# Altium schematic symbol library micro-fujitsu.SCHLIB: 74 symbols
Pins are listed as number, name and electrical type; pins without a type are passive.

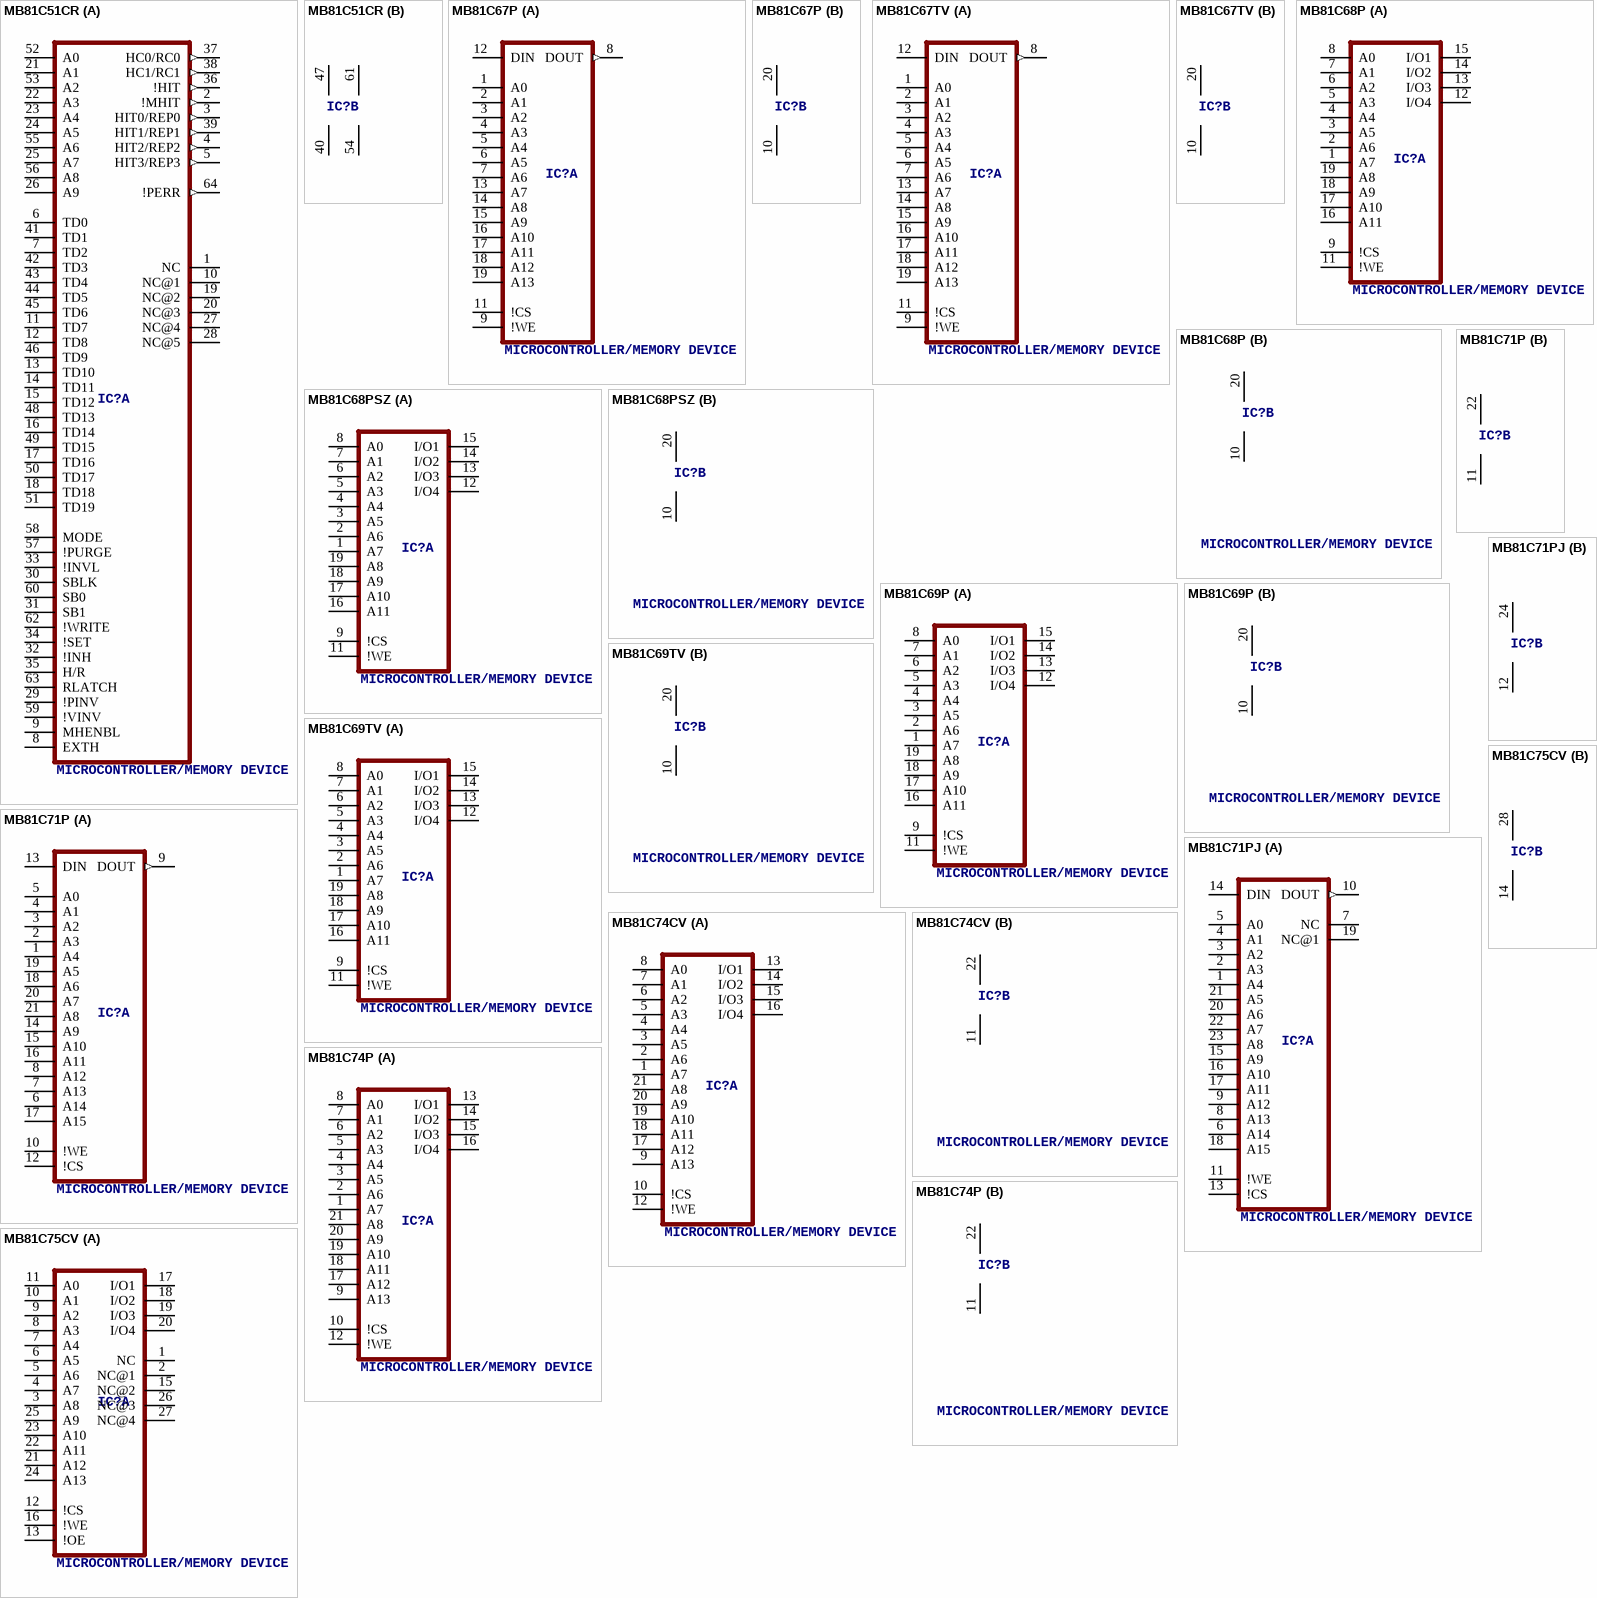
[diagram p0: symbols MB81C51CR to MB81C75CV]

## MB81C51CR
designator IC?, comment MICROCONTROLLER/MEMORY DEVICE
OC_FARNELL: unknown; OC_NEWARK: unknown
footprint PGA64
part A pins: 1 NC, 2 !MHIT (out), 3 HIT0/REP0 (out), 4 HIT2/REP2 (out), 5 HIT3/REP3 (out), 6 TD0, 7 TD2, 8 EXTH, 9 MHENBL, 10 NC@1, 11 TD7, 12 TD8, 13 TD10, 14 TD11, 15 TD12, 16 TD14, 17 TD16, 18 TD18, 19 NC@2, 20 NC@3, 21 A1, 22 A3, 23 A4, 24 A5, 25 A7, 26 A9, 27 NC@4, 28 NC@5, 29 !PINV, 30 SBLK, 31 SB1, 32 !INH, 33 !INVL, 34 !SET, 35 H/R, 36 !HIT (out), 37 HC0/RC0 (out), 38 HC1/RC1 (out), 39 HIT1/REP1 (out), 41 TD1, 42 TD3, 43 TD4, 44 TD5, 45 TD6, 46 TD9, 48 TD13, 49 TD15, 50 TD17, 51 TD19, 52 A0, 53 A2, 55 A6, 56 A8, 57 !PURGE, 58 MODE, 59 !VINV, 60 SB0, 62 !WRITE, 63 RLATCH, 64 !PERR (out)
part B pins: 40 GND (power), 47 VCC (power), 54 GND@1 (power), 61 VCC@1 (power)

## MB81C67P
designator IC?, comment MICROCONTROLLER/MEMORY DEVICE
OC_FARNELL: unknown; OC_NEWARK: unknown
footprint DIL20
part A pins: 1 A0, 2 A1, 3 A2, 4 A3, 5 A4, 6 A5, 7 A6, 8 DOUT (out), 9 !WE, 11 !CS, 12 DIN, 13 A7, 14 A8, 15 A9, 16 A10, 17 A11, 18 A12, 19 A13
part B pins: 10 GND (power), 20 VCC (power)

## MB81C67TV
designator IC?, comment MICROCONTROLLER/MEMORY DEVICE
OC_FARNELL: unknown; OC_NEWARK: unknown
footprint LCC20C
part A pins: 1 A0, 2 A1, 3 A2, 4 A3, 5 A4, 6 A5, 7 A6, 8 DOUT (out), 9 !WE, 11 !CS, 12 DIN, 13 A7, 14 A8, 15 A9, 16 A10, 17 A11, 18 A12, 19 A13
part B pins: 10 GND (power), 20 VCC (power)

## MB81C68P
designator IC?, comment MICROCONTROLLER/MEMORY DEVICE
OC_FARNELL: unknown; OC_NEWARK: unknown
footprint DIL20
part A pins: 1 A7, 2 A6, 3 A5, 4 A4, 5 A3, 6 A2, 7 A1, 8 A0, 9 !CS, 11 !WE, 12 I/O4, 13 I/O3, 14 I/O2, 15 I/O1, 16 A11, 17 A10, 18 A9, 19 A8
part B pins: 10 GND (power), 20 VCC (power)

## MB81C68PSZ
designator IC?, comment MICROCONTROLLER/MEMORY DEVICE
OC_FARNELL: unknown; OC_NEWARK: unknown
footprint ZIP20P
part A pins: 1 A7, 2 A6, 3 A5, 4 A4, 5 A3, 6 A2, 7 A1, 8 A0, 9 !CS, 11 !WE, 12 I/O4, 13 I/O3, 14 I/O2, 15 I/O1, 16 A11, 17 A10, 18 A9, 19 A8
part B pins: 10 GND (power), 20 VCC (power)

## MB81C69P
designator IC?, comment MICROCONTROLLER/MEMORY DEVICE
OC_FARNELL: unknown; OC_NEWARK: unknown
footprint DIL20
part A pins: 1 A7, 2 A6, 3 A5, 4 A4, 5 A3, 6 A2, 7 A1, 8 A0, 9 !CS, 11 !WE, 12 I/O4, 13 I/O3, 14 I/O2, 15 I/O1, 16 A11, 17 A10, 18 A9, 19 A8
part B pins: 10 GND (power), 20 VCC (power)

## MB81C69TV
designator IC?, comment MICROCONTROLLER/MEMORY DEVICE
OC_FARNELL: unknown; OC_NEWARK: unknown
footprint LCC20C
part A pins: 1 A7, 2 A6, 3 A5, 4 A4, 5 A3, 6 A2, 7 A1, 8 A0, 9 !CS, 11 !WE, 12 I/O4, 13 I/O3, 14 I/O2, 15 I/O1, 16 A11, 17 A10, 18 A9, 19 A8
part B pins: 10 GND (power), 20 VCC (power)

## MB81C71P
designator IC?, comment MICROCONTROLLER/MEMORY DEVICE
OC_FARNELL: unknown; OC_NEWARK: unknown
footprint DIL22-3
part A pins: 1 A4, 2 A3, 3 A2, 4 A1, 5 A0, 6 A14, 7 A13, 8 A12, 9 DOUT (out), 10 !WE, 12 !CS, 13 DIN, 14 A9, 15 A10, 16 A11, 17 A15, 18 A6, 19 A5, 20 A7, 21 A8
part B pins: 11 GND (power), 22 VCC (power)

## MB81C71PJ
designator IC?, comment MICROCONTROLLER/MEMORY DEVICE
OC_FARNELL: unknown; OC_NEWARK: unknown
footprint SOJ24
part A pins: 1 A4, 2 A3, 3 A2, 4 A1, 5 A0, 6 A14, 7 NC, 8 A13, 9 A12, 10 DOUT (out), 11 !WE, 13 !CS, 14 DIN, 15 A9, 16 A10, 17 A11, 18 A15, 19 NC@1, 20 A6, 21 A5, 22 A7, 23 A8
part B pins: 12 GND (power), 24 VCC (power)

## MB81C74CV
designator IC?, comment MICROCONTROLLER/MEMORY DEVICE
OC_FARNELL: unknown; OC_NEWARK: unknown
footprint LCC22
part A pins: 1 A7, 2 A6, 3 A5, 4 A4, 5 A3, 6 A2, 7 A1, 8 A0, 9 A13, 10 !CS, 12 !WE, 13 I/O1, 14 I/O2, 15 I/O3, 16 I/O4, 17 A12, 18 A11, 19 A10, 20 A9, 21 A8
part B pins: 11 GND (power), 22 VCC (power)

## MB81C74P
designator IC?, comment MICROCONTROLLER/MEMORY DEVICE
OC_FARNELL: unknown; OC_NEWARK: unknown
footprint DIL22-3
part A pins: 1 A7, 2 A6, 3 A5, 4 A4, 5 A3, 6 A2, 7 A1, 8 A0, 9 A13, 10 !CS, 12 !WE, 13 I/O1, 14 I/O2, 15 I/O3, 16 I/O4, 17 A12, 18 A11, 19 A10, 20 A9, 21 A8
part B pins: 11 GND (power), 22 VCC (power)

## MB81C75CV
designator IC?, comment MICROCONTROLLER/MEMORY DEVICE
OC_FARNELL: unknown; OC_NEWARK: unknown
footprint LCC28
part A pins: 1 NC, 2 NC@1, 3 A8, 4 A7, 5 A6, 6 A5, 7 A4, 8 A3, 9 A2, 10 A1, 11 A0, 12 !CS, 13 !OE, 15 NC@2, 16 !WE, 17 I/O1, 18 I/O2, 19 I/O3, 20 I/O4, 21 A12, 22 A11, 23 A10, 24 A13, 25 A9, 26 NC@3, 27 NC@4
part B pins: 14 GND (power), 28 VCC (power)

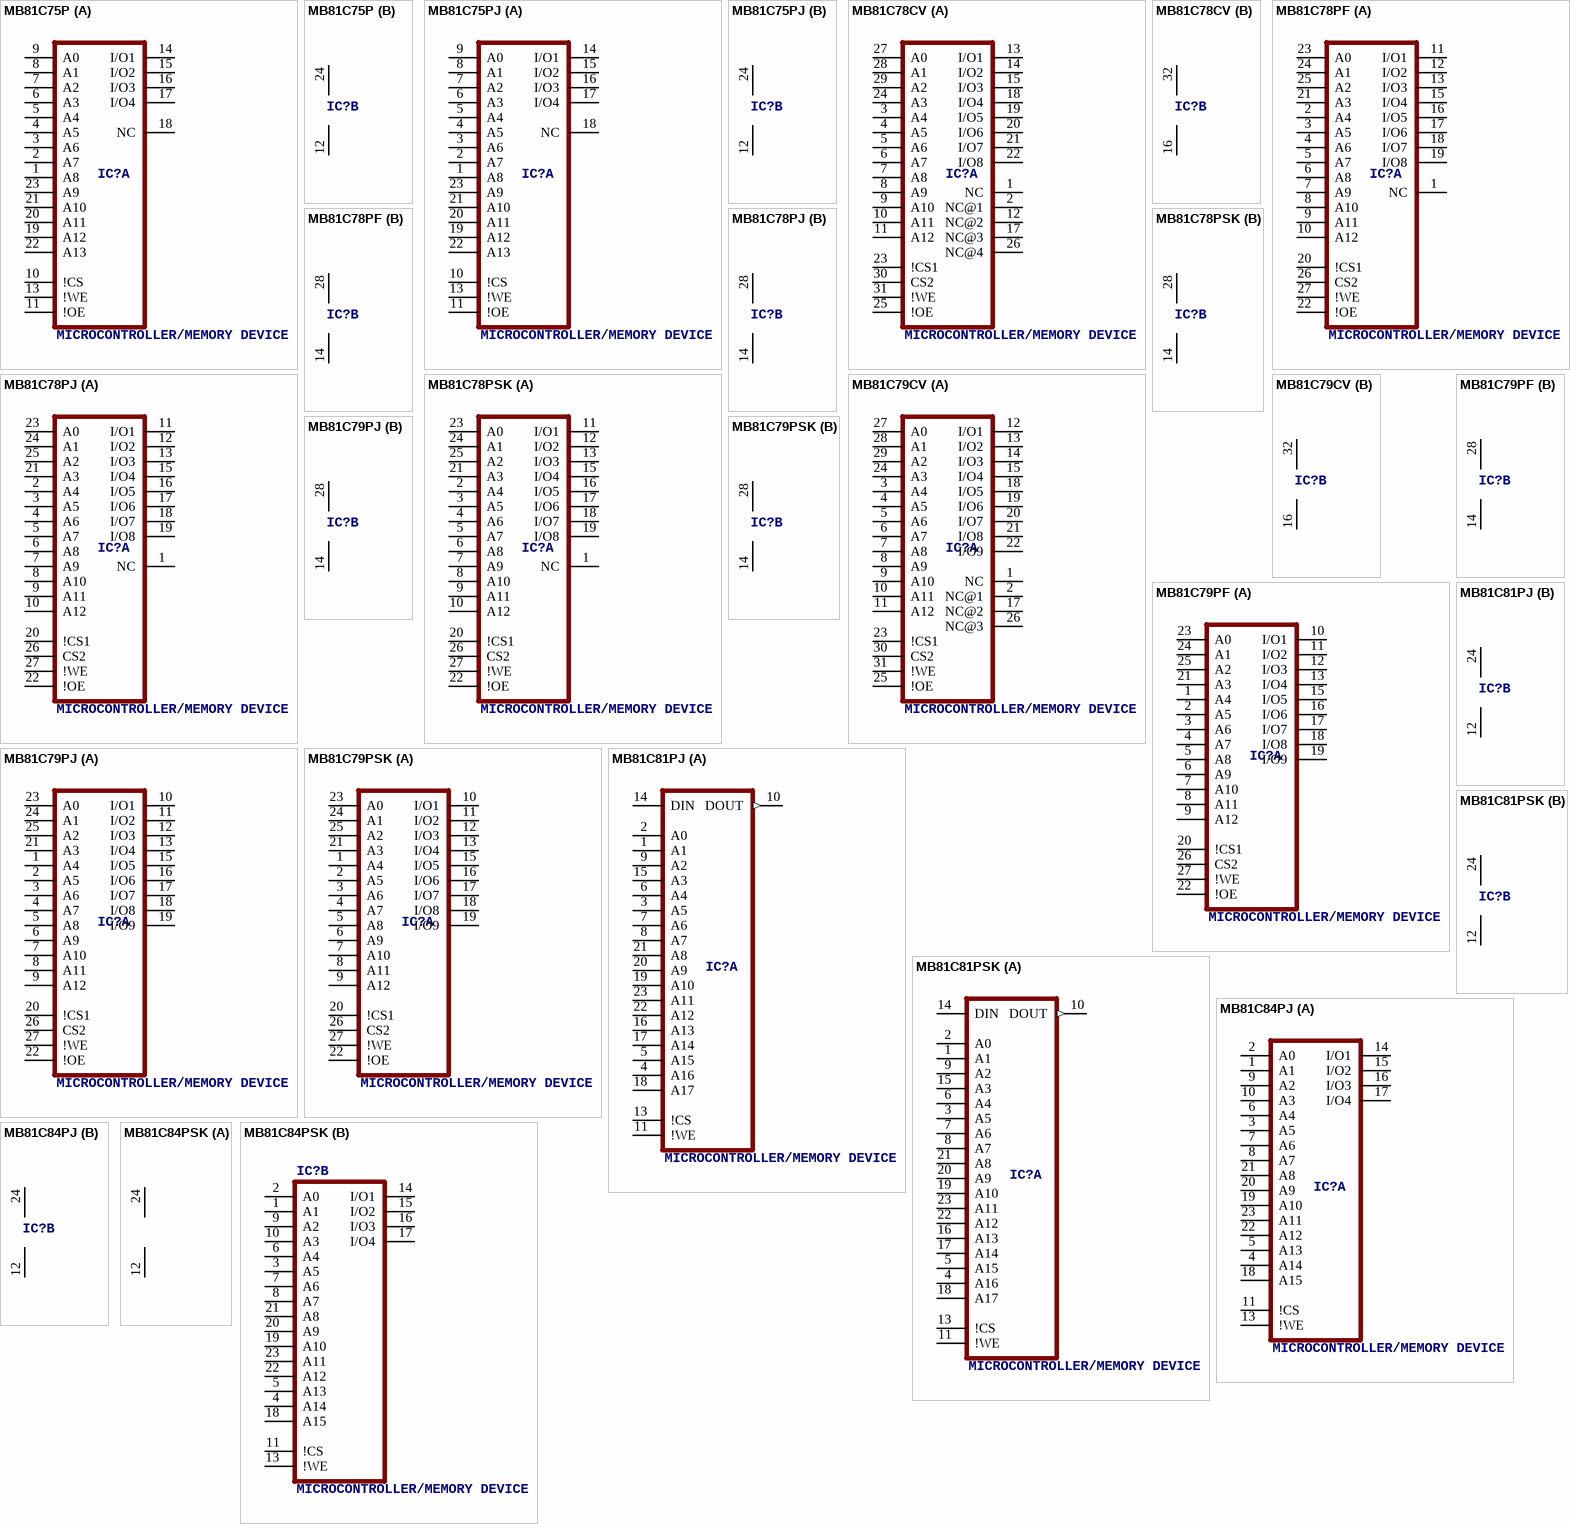
[diagram p1: symbols MB81C75P to MB81C84PSK]

## MB81C75P
designator IC?, comment MICROCONTROLLER/MEMORY DEVICE
OC_FARNELL: unknown; OC_NEWARK: unknown
footprint DIL24-6
part A pins: 1 A8, 2 A7, 3 A6, 4 A5, 5 A4, 6 A3, 7 A2, 8 A1, 9 A0, 10 !CS, 11 !OE, 13 !WE, 14 I/O1, 15 I/O2, 16 I/O3, 17 I/O4, 18 NC, 19 A12, 20 A11, 21 A10, 22 A13, 23 A9
part B pins: 12 GND (power), 24 VCC (power)

## MB81C75PJ
designator IC?, comment MICROCONTROLLER/MEMORY DEVICE
OC_FARNELL: unknown; OC_NEWARK: unknown
footprint SOJ24
part A pins: 1 A8, 2 A7, 3 A6, 4 A5, 5 A4, 6 A3, 7 A2, 8 A1, 9 A0, 10 !CS, 11 !OE, 13 !WE, 14 I/O1, 15 I/O2, 16 I/O3, 17 I/O4, 18 NC, 19 A12, 20 A11, 21 A10, 22 A13, 23 A9
part B pins: 12 GND (power), 24 VCC (power)

## MB81C78CV
designator IC?, comment MICROCONTROLLER/MEMORY DEVICE
OC_FARNELL: unknown; OC_NEWARK: unknown
footprint LCC32
part A pins: 1 NC, 2 NC@1, 3 A4, 4 A5, 5 A6, 6 A7, 7 A8, 8 A9, 9 A10, 10 A11, 11 A12, 12 NC@2, 13 I/O1, 14 I/O2, 15 I/O3, 17 NC@3, 18 I/O4, 19 I/O5, 20 I/O6, 21 I/O7, 22 I/O8, 23 !CS1, 24 A3, 25 !OE, 26 NC@4, 27 A0, 28 A1, 29 A2, 30 CS2, 31 !WE
part B pins: 16 GND (power), 32 VCC (power)

## MB81C78PF
designator IC?, comment MICROCONTROLLER/MEMORY DEVICE
OC_FARNELL: unknown; OC_NEWARK: unknown
footprint SOP28
part A pins: 1 NC, 2 A4, 3 A5, 4 A6, 5 A7, 6 A8, 7 A9, 8 A10, 9 A11, 10 A12, 11 I/O1, 12 I/O2, 13 I/O3, 15 I/O4, 16 I/O5, 17 I/O6, 18 I/O7, 19 I/O8, 20 !CS1, 21 A3, 22 !OE, 23 A0, 24 A1, 25 A2, 26 CS2, 27 !WE
part B pins: 14 GND (power), 28 VCC (power)

## MB81C78PJ
designator IC?, comment MICROCONTROLLER/MEMORY DEVICE
OC_FARNELL: unknown; OC_NEWARK: unknown
footprint SOJ28-3
part A pins: 1 NC, 2 A4, 3 A5, 4 A6, 5 A7, 6 A8, 7 A9, 8 A10, 9 A11, 10 A12, 11 I/O1, 12 I/O2, 13 I/O3, 15 I/O4, 16 I/O5, 17 I/O6, 18 I/O7, 19 I/O8, 20 !CS1, 21 A3, 22 !OE, 23 A0, 24 A1, 25 A2, 26 CS2, 27 !WE
part B pins: 14 GND (power), 28 VCC (power)

## MB81C78PSK
designator IC?, comment MICROCONTROLLER/MEMORY DEVICE
OC_FARNELL: unknown; OC_NEWARK: unknown
footprint DIL28-3
part A pins: 1 NC, 2 A4, 3 A5, 4 A6, 5 A7, 6 A8, 7 A9, 8 A10, 9 A11, 10 A12, 11 I/O1, 12 I/O2, 13 I/O3, 15 I/O4, 16 I/O5, 17 I/O6, 18 I/O7, 19 I/O8, 20 !CS1, 21 A3, 22 !OE, 23 A0, 24 A1, 25 A2, 26 CS2, 27 !WE
part B pins: 14 GND (power), 28 VCC (power)

## MB81C79CV
designator IC?, comment MICROCONTROLLER/MEMORY DEVICE
OC_FARNELL: unknown; OC_NEWARK: unknown
footprint LCC32
part A pins: 1 NC, 2 NC@1, 3 A4, 4 A5, 5 A6, 6 A7, 7 A8, 8 A9, 9 A10, 10 A11, 11 A12, 12 I/O1, 13 I/O2, 14 I/O3, 15 I/O4, 17 NC@2, 18 I/O5, 19 I/O6, 20 I/O7, 21 I/O8, 22 I/O9, 23 !CS1, 24 A3, 25 !OE, 26 NC@3, 27 A0, 28 A1, 29 A2, 30 CS2, 31 !WE
part B pins: 16 GND (power), 32 VCC (power)

## MB81C79PF
designator IC?, comment MICROCONTROLLER/MEMORY DEVICE
OC_FARNELL: unknown; OC_NEWARK: unknown
footprint SOP28
part A pins: 1 A4, 2 A5, 3 A6, 4 A7, 5 A8, 6 A9, 7 A10, 8 A11, 9 A12, 10 I/O1, 11 I/O2, 12 I/O3, 13 I/O4, 15 I/O5, 16 I/O6, 17 I/O7, 18 I/O8, 19 I/O9, 20 !CS1, 21 A3, 22 !OE, 23 A0, 24 A1, 25 A2, 26 CS2, 27 !WE
part B pins: 14 GND (power), 28 VCC (power)

## MB81C79PJ
designator IC?, comment MICROCONTROLLER/MEMORY DEVICE
OC_FARNELL: unknown; OC_NEWARK: unknown
footprint SOJ28-3
part A pins: 1 A4, 2 A5, 3 A6, 4 A7, 5 A8, 6 A9, 7 A10, 8 A11, 9 A12, 10 I/O1, 11 I/O2, 12 I/O3, 13 I/O4, 15 I/O5, 16 I/O6, 17 I/O7, 18 I/O8, 19 I/O9, 20 !CS1, 21 A3, 22 !OE, 23 A0, 24 A1, 25 A2, 26 CS2, 27 !WE
part B pins: 14 GND (power), 28 VCC (power)

## MB81C79PSK
designator IC?, comment MICROCONTROLLER/MEMORY DEVICE
OC_FARNELL: unknown; OC_NEWARK: unknown
footprint DIL28-3
part A pins: 1 A4, 2 A5, 3 A6, 4 A7, 5 A8, 6 A9, 7 A10, 8 A11, 9 A12, 10 I/O1, 11 I/O2, 12 I/O3, 13 I/O4, 15 I/O5, 16 I/O6, 17 I/O7, 18 I/O8, 19 I/O9, 20 !CS1, 21 A3, 22 !OE, 23 A0, 24 A1, 25 A2, 26 CS2, 27 !WE
part B pins: 14 GND (power), 28 VCC (power)

## MB81C81PJ
designator IC?, comment MICROCONTROLLER/MEMORY DEVICE
OC_FARNELL: unknown; OC_NEWARK: unknown
footprint SOJ24
part A pins: 1 A1, 2 A0, 3 A5, 4 A16, 5 A15, 6 A4, 7 A6, 8 A7, 9 A2, 10 DOUT (out), 11 !WE, 13 !CS, 14 DIN, 15 A3, 16 A13, 17 A14, 18 A17, 19 A10, 20 A9, 21 A8, 22 A12, 23 A11
part B pins: 12 GND (power), 24 VCC (power)

## MB81C81PSK
designator IC?, comment MICROCONTROLLER/MEMORY DEVICE
OC_FARNELL: unknown; OC_NEWARK: unknown
footprint DIL24-6
part A pins: 1 A1, 2 A0, 3 A5, 4 A16, 5 A15, 6 A4, 7 A6, 8 A7, 9 A2, 10 DOUT (out), 11 !WE, 13 !CS, 14 DIN, 15 A3, 16 A13, 17 A14, 18 A17, 19 A10, 20 A9, 21 A8, 22 A12, 23 A11
part B pins: 12 GND (power), 24 VCC (power)

## MB81C84PJ
designator IC?, comment MICROCONTROLLER/MEMORY DEVICE
OC_FARNELL: unknown; OC_NEWARK: unknown
footprint SOJ24
part A pins: 1 A1, 2 A0, 3 A5, 4 A14, 5 A13, 6 A4, 7 A6, 8 A7, 9 A2, 10 A3, 11 !CS, 13 !WE, 14 I/O1, 15 I/O2, 16 I/O3, 17 I/O4, 18 A15, 19 A10, 20 A9, 21 A8, 22 A12, 23 A11
part B pins: 12 GND (power), 24 VCC (power)

## MB81C84PSK
designator IC?, comment MICROCONTROLLER/MEMORY DEVICE
OC_FARNELL: unknown; OC_NEWARK: unknown
footprint DIL24-6
part A pins: 12 GND (power), 24 VCC (power)
part B pins: 1 A1, 2 A0, 3 A5, 4 A14, 5 A13, 6 A4, 7 A6, 8 A7, 9 A2, 10 A3, 11 !CS, 13 !WE, 14 I/O1, 15 I/O2, 16 I/O3, 17 I/O4, 18 A15, 19 A10, 20 A9, 21 A8, 22 A12, 23 A11

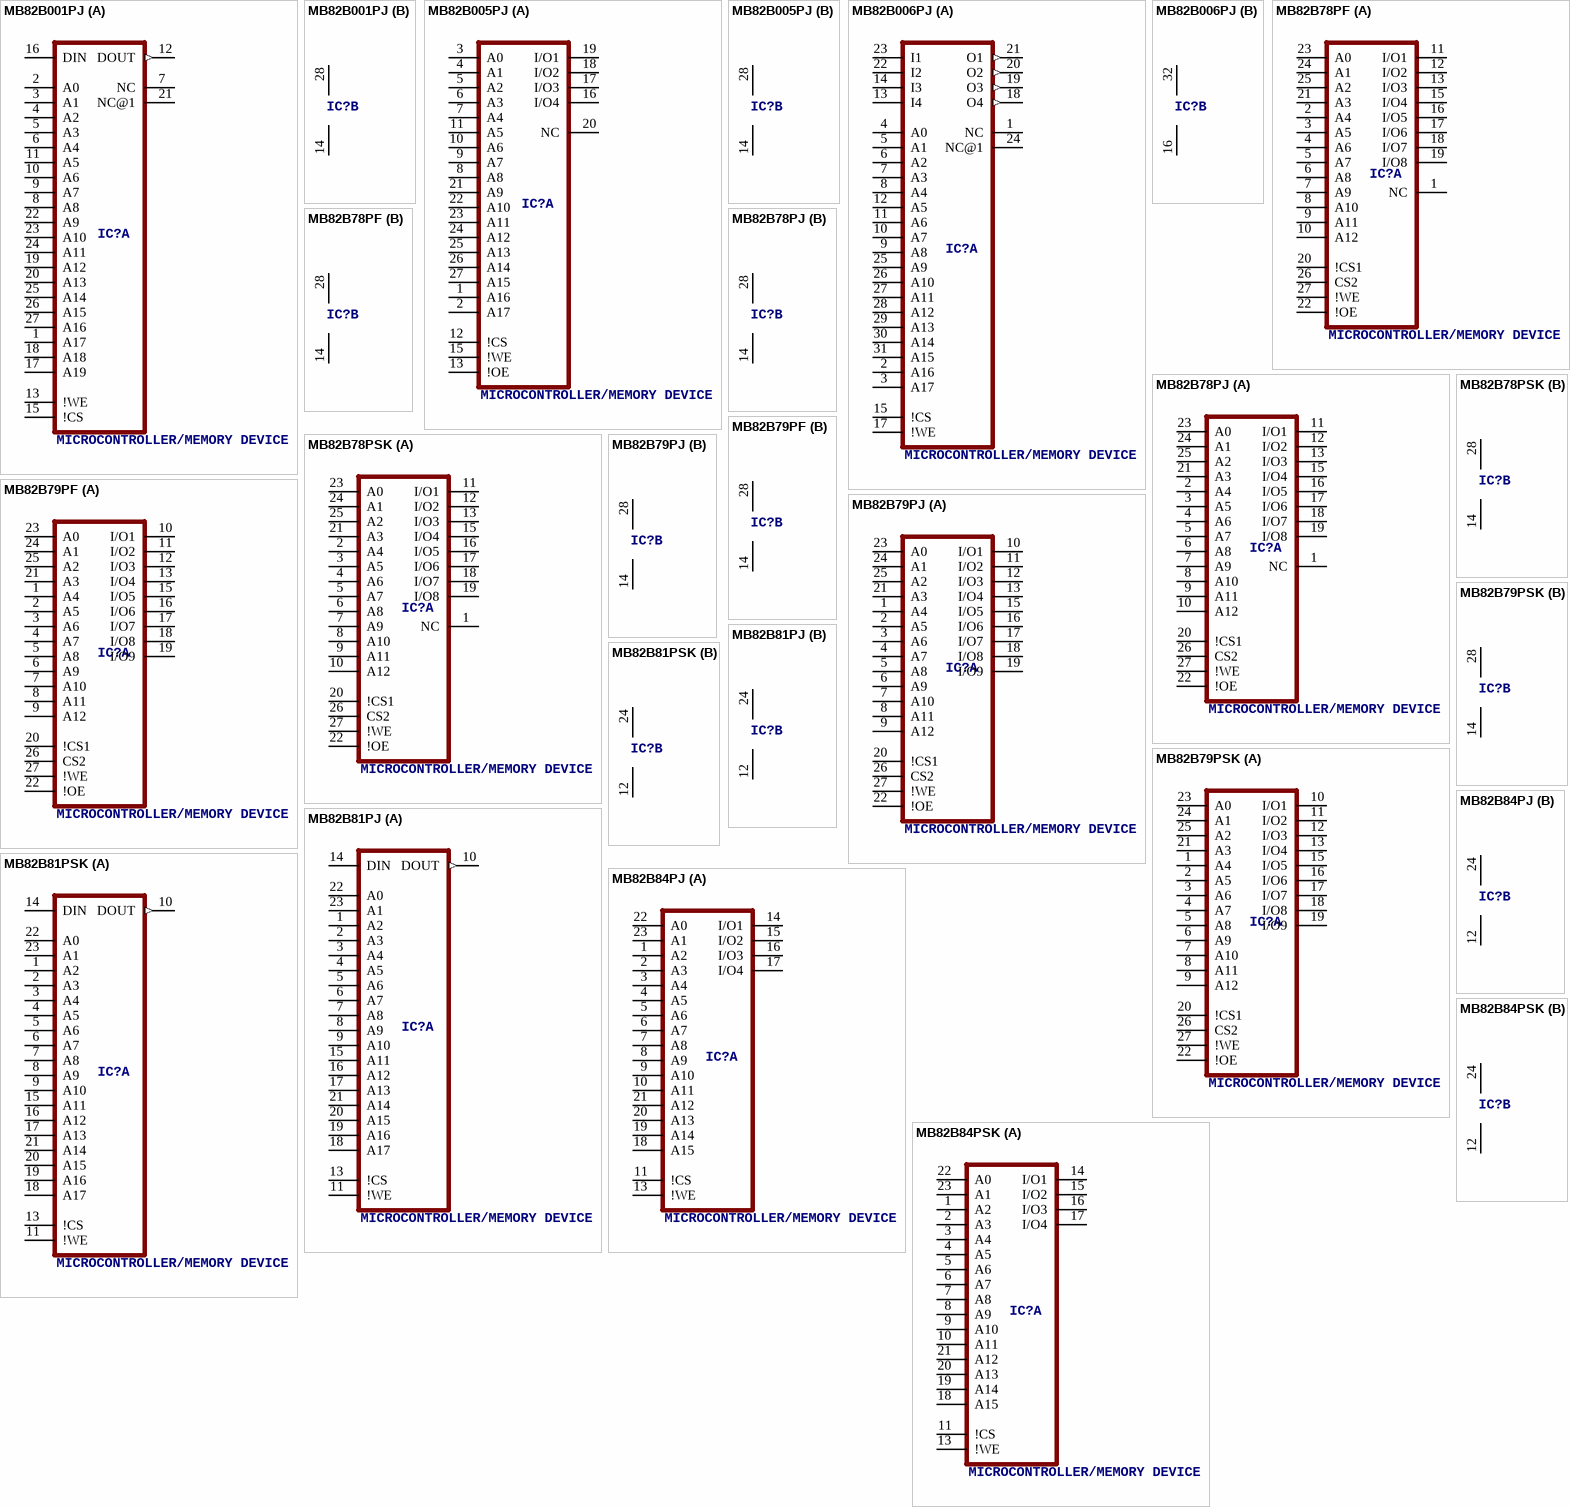
[diagram p2: symbols MB82B001PJ to MB82B84PSK]

## MB82B001PJ
designator IC?, comment MICROCONTROLLER/MEMORY DEVICE
OC_FARNELL: unknown; OC_NEWARK: unknown
footprint SOJ28-4
part A pins: 1 A17, 2 A0, 3 A1, 4 A2, 5 A3, 6 A4, 7 NC, 8 A8, 9 A7, 10 A6, 11 A5, 12 DOUT (out), 13 !WE, 15 !CS, 16 DIN, 17 A19, 18 A18, 19 A12, 20 A13, 21 NC@1, 22 A9, 23 A10, 24 A11, 25 A14, 26 A15, 27 A16
part B pins: 14 GND (power), 28 VCC (power)

## MB82B005PJ
designator IC?, comment MICROCONTROLLER/MEMORY DEVICE
OC_FARNELL: unknown; OC_NEWARK: unknown
footprint SOJ28-4
part A pins: 1 A16, 2 A17, 3 A0, 4 A1, 5 A2, 6 A3, 7 A4, 8 A8, 9 A7, 10 A6, 11 A5, 12 !CS, 13 !OE, 15 !WE, 16 I/O4, 17 I/O3, 18 I/O2, 19 I/O1, 20 NC, 21 A9, 22 A10, 23 A11, 24 A12, 25 A13, 26 A14, 27 A15
part B pins: 14 GND (power), 28 VCC (power)

## MB82B006PJ
designator IC?, comment MICROCONTROLLER/MEMORY DEVICE
OC_FARNELL: unknown; OC_NEWARK: unknown
footprint SOJ32-4
part A pins: 1 NC, 2 A16, 3 A17, 4 A0, 5 A1, 6 A2, 7 A3, 8 A4, 9 A8, 10 A7, 11 A6, 12 A5, 13 I4, 14 I3, 15 !CS, 17 !WE, 18 O4 (out), 19 O3 (out), 20 O2 (out), 21 O1 (out), 22 I2, 23 I1, 24 NC@1, 25 A9, 26 A10, 27 A11, 28 A12, 29 A13, 30 A14, 31 A15
part B pins: 16 GND (power), 32 VCC (power)

## MB82B78PF
designator IC?, comment MICROCONTROLLER/MEMORY DEVICE
OC_FARNELL: unknown; OC_NEWARK: unknown
footprint SOP28
part A pins: 1 NC, 2 A4, 3 A5, 4 A6, 5 A7, 6 A8, 7 A9, 8 A10, 9 A11, 10 A12, 11 I/O1, 12 I/O2, 13 I/O3, 15 I/O4, 16 I/O5, 17 I/O6, 18 I/O7, 19 I/O8, 20 !CS1, 21 A3, 22 !OE, 23 A0, 24 A1, 25 A2, 26 CS2, 27 !WE
part B pins: 14 GND (power), 28 VCC (power)

## MB82B78PJ
designator IC?, comment MICROCONTROLLER/MEMORY DEVICE
OC_FARNELL: unknown; OC_NEWARK: unknown
footprint SOJ28-3
part A pins: 1 NC, 2 A4, 3 A5, 4 A6, 5 A7, 6 A8, 7 A9, 8 A10, 9 A11, 10 A12, 11 I/O1, 12 I/O2, 13 I/O3, 15 I/O4, 16 I/O5, 17 I/O6, 18 I/O7, 19 I/O8, 20 !CS1, 21 A3, 22 !OE, 23 A0, 24 A1, 25 A2, 26 CS2, 27 !WE
part B pins: 14 GND (power), 28 VCC (power)

## MB82B78PSK
designator IC?, comment MICROCONTROLLER/MEMORY DEVICE
OC_FARNELL: unknown; OC_NEWARK: unknown
footprint DIL28-3
part A pins: 1 NC, 2 A4, 3 A5, 4 A6, 5 A7, 6 A8, 7 A9, 8 A10, 9 A11, 10 A12, 11 I/O1, 12 I/O2, 13 I/O3, 15 I/O4, 16 I/O5, 17 I/O6, 18 I/O7, 19 I/O8, 20 !CS1, 21 A3, 22 !OE, 23 A0, 24 A1, 25 A2, 26 CS2, 27 !WE
part B pins: 14 GND (power), 28 VCC (power)

## MB82B79PF
designator IC?, comment MICROCONTROLLER/MEMORY DEVICE
OC_FARNELL: unknown; OC_NEWARK: unknown
footprint SOJ28-3
part A pins: 1 A4, 2 A5, 3 A6, 4 A7, 5 A8, 6 A9, 7 A10, 8 A11, 9 A12, 10 I/O1, 11 I/O2, 12 I/O3, 13 I/O4, 15 I/O5, 16 I/O6, 17 I/O7, 18 I/O8, 19 I/O9, 20 !CS1, 21 A3, 22 !OE, 23 A0, 24 A1, 25 A2, 26 CS2, 27 !WE
part B pins: 14 GND (power), 28 VCC (power)

## MB82B79PJ
designator IC?, comment MICROCONTROLLER/MEMORY DEVICE
OC_FARNELL: unknown; OC_NEWARK: unknown
footprint SOP28
part A pins: 1 A4, 2 A5, 3 A6, 4 A7, 5 A8, 6 A9, 7 A10, 8 A11, 9 A12, 10 I/O1, 11 I/O2, 12 I/O3, 13 I/O4, 15 I/O5, 16 I/O6, 17 I/O7, 18 I/O8, 19 I/O9, 20 !CS1, 21 A3, 22 !OE, 23 A0, 24 A1, 25 A2, 26 CS2, 27 !WE
part B pins: 14 GND (power), 28 VCC (power)

## MB82B79PSK
designator IC?, comment MICROCONTROLLER/MEMORY DEVICE
OC_FARNELL: unknown; OC_NEWARK: unknown
footprint DIL28-3
part A pins: 1 A4, 2 A5, 3 A6, 4 A7, 5 A8, 6 A9, 7 A10, 8 A11, 9 A12, 10 I/O1, 11 I/O2, 12 I/O3, 13 I/O4, 15 I/O5, 16 I/O6, 17 I/O7, 18 I/O8, 19 I/O9, 20 !CS1, 21 A3, 22 !OE, 23 A0, 24 A1, 25 A2, 26 CS2, 27 !WE
part B pins: 14 GND (power), 28 VCC (power)

## MB82B81PJ
designator IC?, comment MICROCONTROLLER/MEMORY DEVICE
OC_FARNELL: unknown; OC_NEWARK: unknown
footprint SOJ24
part A pins: 1 A2, 2 A3, 3 A4, 4 A5, 5 A6, 6 A7, 7 A8, 8 A9, 9 A10, 10 DOUT (out), 11 !WE, 13 !CS, 14 DIN, 15 A11, 16 A12, 17 A13, 18 A17, 19 A16, 20 A15, 21 A14, 22 A0, 23 A1
part B pins: 12 GND (power), 24 VCC (power)

## MB82B81PSK
designator IC?, comment MICROCONTROLLER/MEMORY DEVICE
OC_FARNELL: unknown; OC_NEWARK: unknown
footprint DIL24-6
part A pins: 1 A2, 2 A3, 3 A4, 4 A5, 5 A6, 6 A7, 7 A8, 8 A9, 9 A10, 10 DOUT (out), 11 !WE, 13 !CS, 14 DIN, 15 A11, 16 A12, 17 A13, 18 A17, 19 A16, 20 A15, 21 A14, 22 A0, 23 A1
part B pins: 12 GND (power), 24 VCC (power)

## MB82B84PJ
designator IC?, comment MICROCONTROLLER/MEMORY DEVICE
OC_FARNELL: unknown; OC_NEWARK: unknown
footprint SOJ24
part A pins: 1 A2, 2 A3, 3 A4, 4 A5, 5 A6, 6 A7, 7 A8, 8 A9, 9 A10, 10 A11, 11 !CS, 13 !WE, 14 I/O1, 15 I/O2, 16 I/O3, 17 I/O4, 18 A15, 19 A14, 20 A13, 21 A12, 22 A0, 23 A1
part B pins: 12 GND (power), 24 VCC (power)

## MB82B84PSK
designator IC?, comment MICROCONTROLLER/MEMORY DEVICE
OC_FARNELL: unknown; OC_NEWARK: unknown
footprint DIL24-6
part A pins: 1 A2, 2 A3, 3 A4, 4 A5, 5 A6, 6 A7, 7 A8, 8 A9, 9 A10, 10 A11, 11 !CS, 13 !WE, 14 I/O1, 15 I/O2, 16 I/O3, 17 I/O4, 18 A15, 19 A14, 20 A13, 21 A12, 22 A0, 23 A1
part B pins: 12 GND (power), 24 VCC (power)

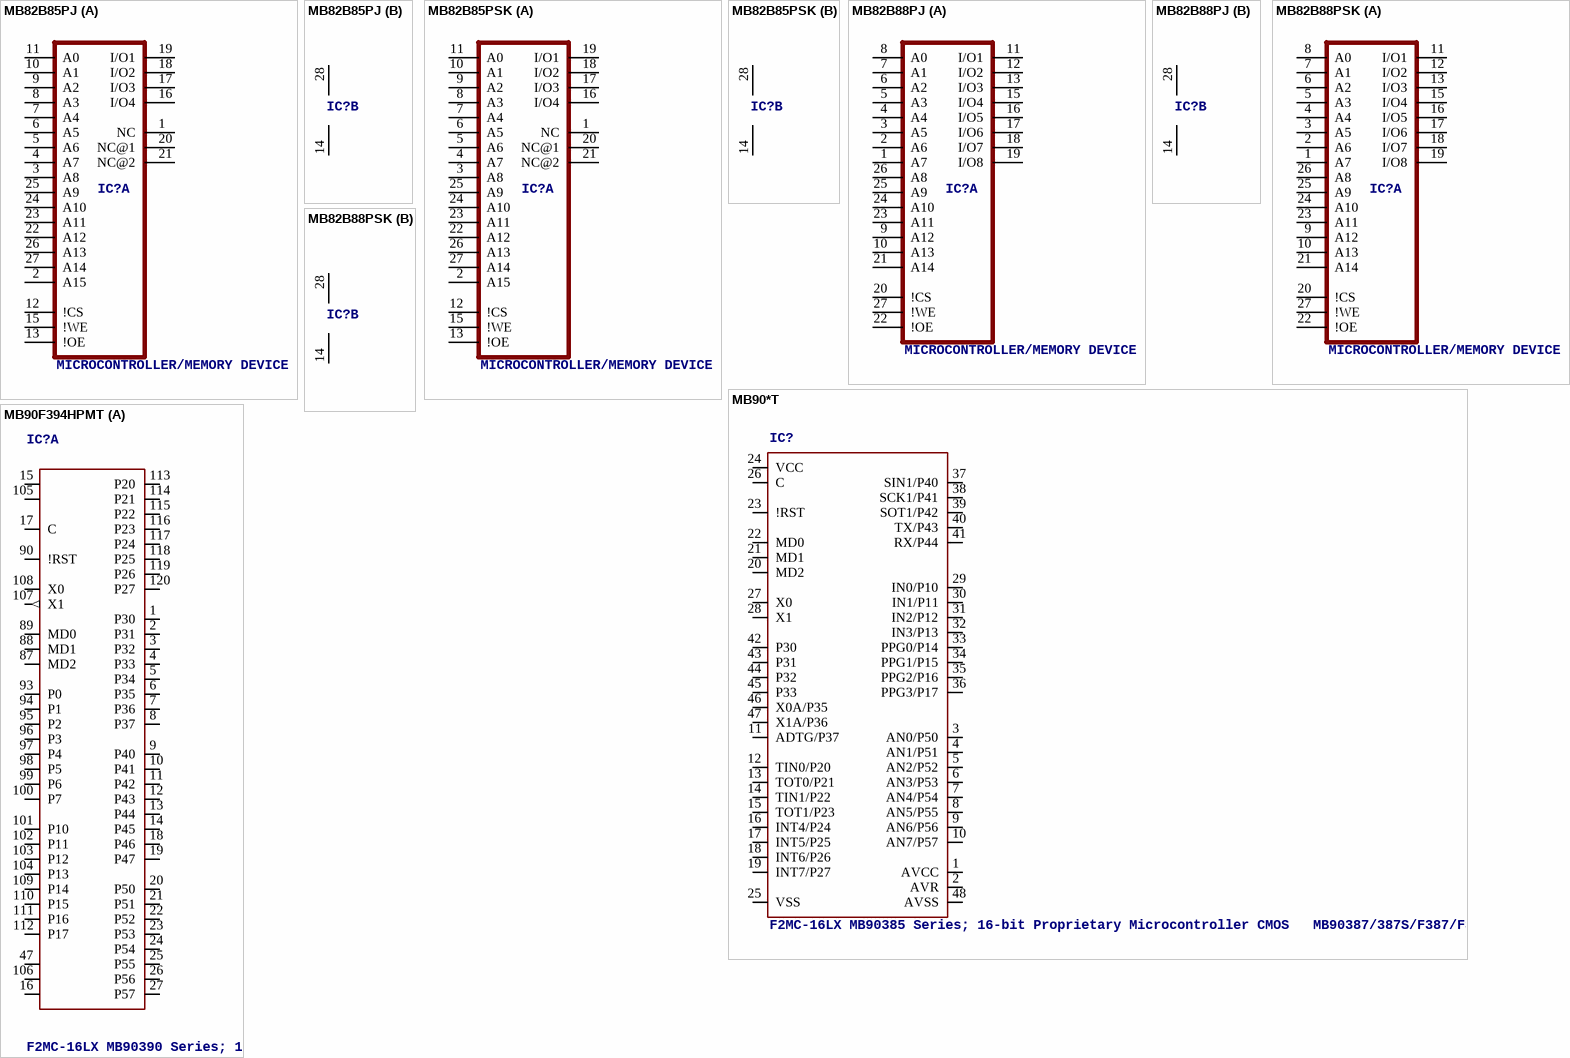
[diagram p3: symbols MB82B85PJ to MB90F394HPMT]

## MB82B85PJ
designator IC?, comment MICROCONTROLLER/MEMORY DEVICE
OC_FARNELL: unknown; OC_NEWARK: unknown
footprint SOJ28-3
part A pins: 1 NC, 2 A15, 3 A8, 4 A7, 5 A6, 6 A5, 7 A4, 8 A3, 9 A2, 10 A1, 11 A0, 12 !CS, 13 !OE, 15 !WE, 16 I/O4, 17 I/O3, 18 I/O2, 19 I/O1, 20 NC@1, 21 NC@2, 22 A12, 23 A11, 24 A10, 25 A9, 26 A13, 27 A14
part B pins: 14 GND (power), 28 VCC (power)

## MB82B85PSK
designator IC?, comment MICROCONTROLLER/MEMORY DEVICE
OC_FARNELL: unknown; OC_NEWARK: unknown
footprint DIL28-3
part A pins: 1 NC, 2 A15, 3 A8, 4 A7, 5 A6, 6 A5, 7 A4, 8 A3, 9 A2, 10 A1, 11 A0, 12 !CS, 13 !OE, 15 !WE, 16 I/O4, 17 I/O3, 18 I/O2, 19 I/O1, 20 NC@1, 21 NC@2, 22 A12, 23 A11, 24 A10, 25 A9, 26 A13, 27 A14
part B pins: 14 GND (power), 28 VCC (power)

## MB82B88PJ
designator IC?, comment MICROCONTROLLER/MEMORY DEVICE
OC_FARNELL: unknown; OC_NEWARK: unknown
footprint SOJ28-3
part A pins: 1 A7, 2 A6, 3 A5, 4 A4, 5 A3, 6 A2, 7 A1, 8 A0, 9 A12, 10 A13, 11 I/O1, 12 I/O2, 13 I/O3, 15 I/O4, 16 I/O5, 17 I/O6, 18 I/O7, 19 I/O8, 20 !CS, 21 A14, 22 !OE, 23 A11, 24 A10, 25 A9, 26 A8, 27 !WE
part B pins: 14 GND (power), 28 VCC (power)

## MB82B88PSK
designator IC?, comment MICROCONTROLLER/MEMORY DEVICE
OC_FARNELL: unknown; OC_NEWARK: unknown
footprint DIL28-3
part A pins: 1 A7, 2 A6, 3 A5, 4 A4, 5 A3, 6 A2, 7 A1, 8 A0, 9 A12, 10 A13, 11 I/O1, 12 I/O2, 13 I/O3, 15 I/O4, 16 I/O5, 17 I/O6, 18 I/O7, 19 I/O8, 20 !CS, 21 A14, 22 !OE, 23 A11, 24 A10, 25 A9, 26 A8, 27 !WE
part B pins: 14 GND (power), 28 VCC (power)

## MB90*T
designator IC?, comment F2MC-16LX MB90385 Series; 16-bit Proprietary Microcontroller CMOS   MB90387/387S/F387/F387S/MB90V495G www.fma.fujitsu.com/pdf/e713717.pdf
OC_FARNELL: unknown; OC_NEWARK: unknown
footprint LQFP48
pins: 1 AVCC (power), 2 AVR, 3 AN0/P50, 4 AN1/P51, 5 AN2/P52, 6 AN3/P53, 7 AN4/P54, 8 AN5/P55, 9 AN6/P56, 10 AN7/P57, 11 ADTG/P37, 12 TIN0/P20, 13 TOT0/P21, 14 TIN1/P22, 15 TOT1/P23, 16 INT4/P24, 17 INT5/P25, 18 INT6/P26, 19 INT7/P27, 20 MD2, 21 MD1, 22 MD0, 23 !RST, 24 VCC (power), 25 VSS (power), 26 C, 27 X0, 28 X1, 29 IN0/P10, 30 IN1/P11, 31 IN2/P12, 32 IN3/P13, 33 PPG0/P14, 34 PPG1/P15, 35 PPG2/P16, 36 PPG3/P17, 37 SIN1/P40, 38 SCK1/P41, 39 SOT1/P42, 40 TX/P43, 41 RX/P44, 42 P30, 43 P31, 44 P32, 45 P33, 46 X0A/P35, 47 X1A/P36, 48 AVSS (power)

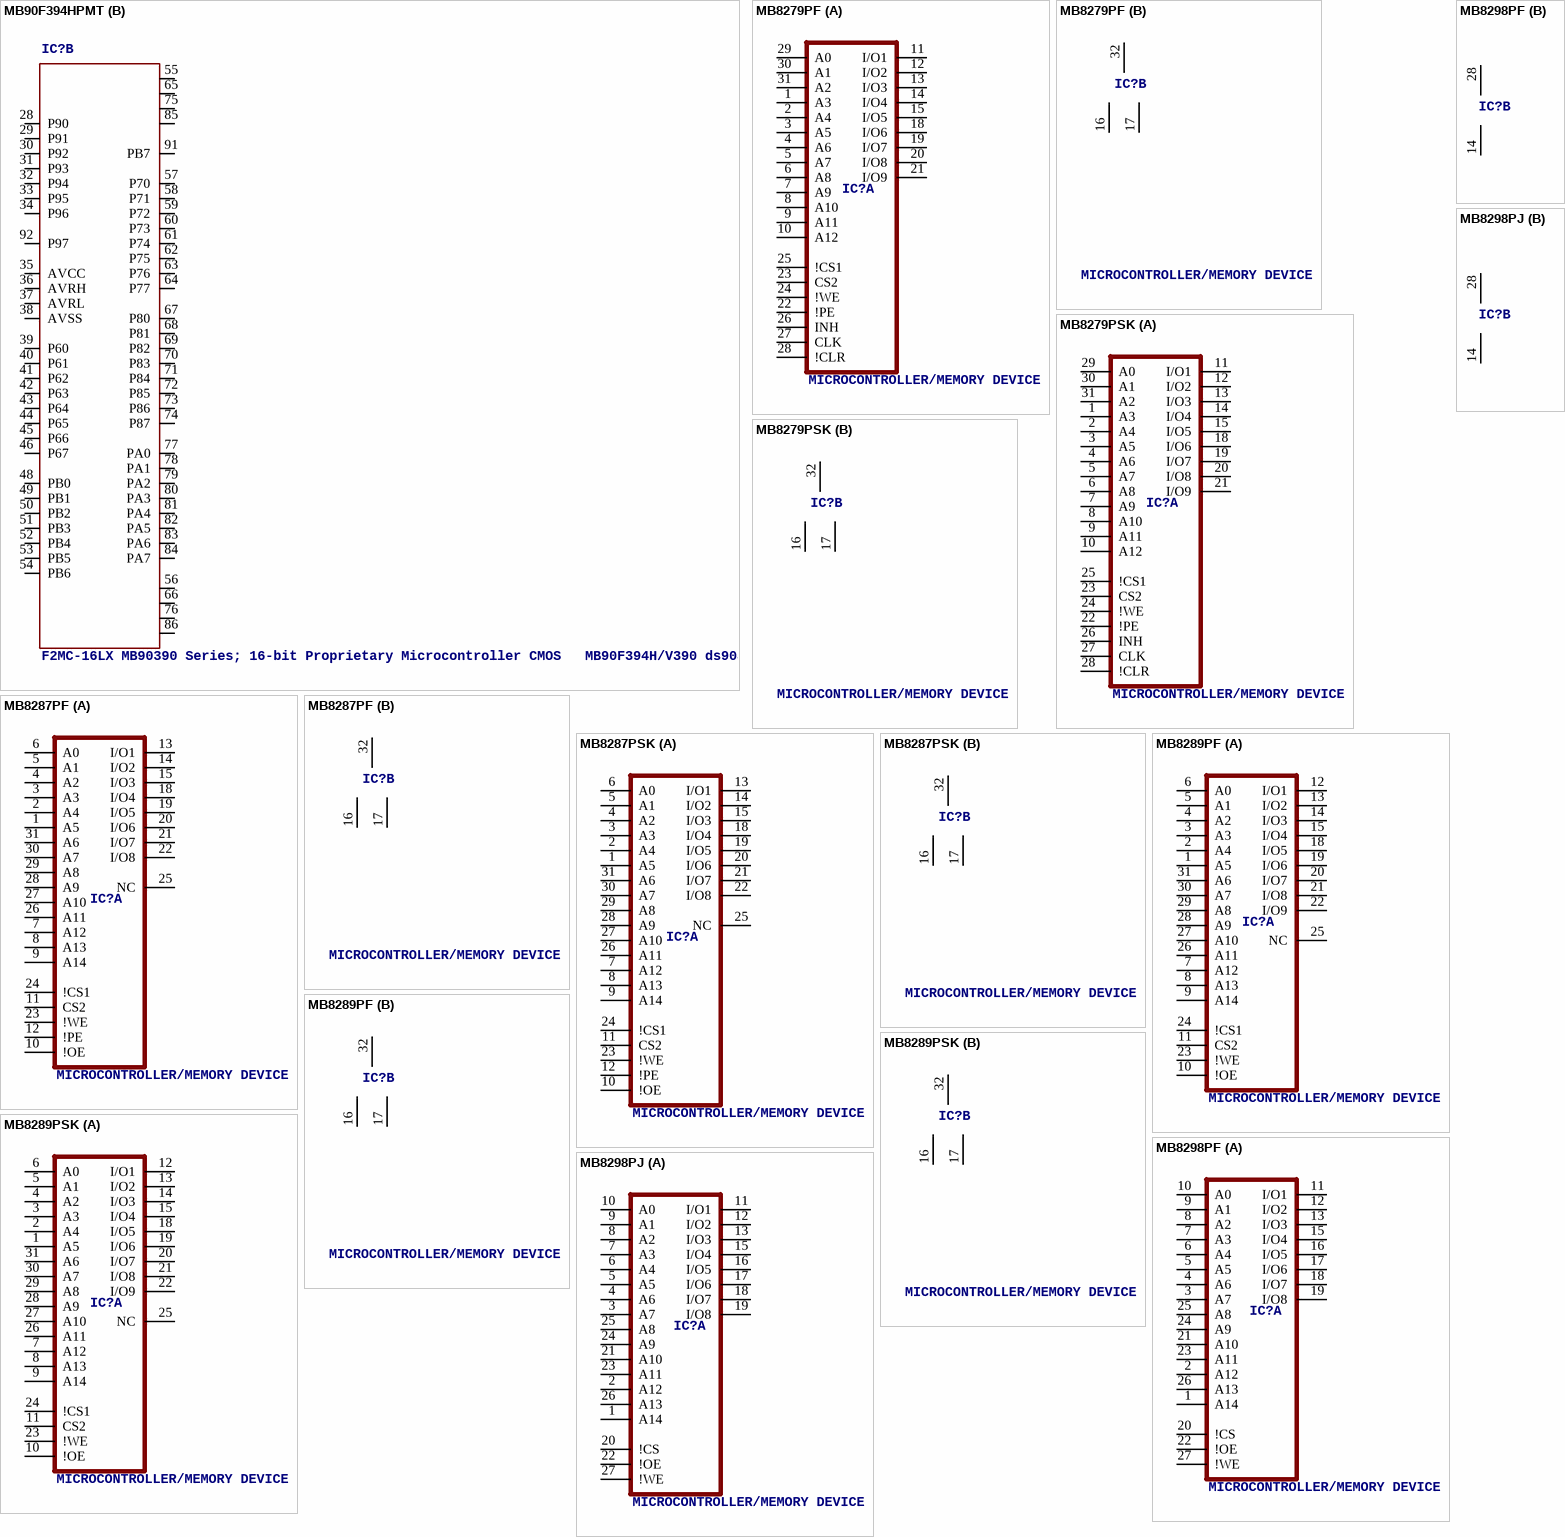
[diagram p4: symbols MB90F394HPMT to MB8298PJ]

## MB90F394HPMT
designator IC?, comment F2MC-16LX MB90390 Series; 16-bit Proprietary Microcontroller CMOS   MB90F394H/V390 ds90390-ds07-13722-1e.pdf http://www.fme.gsdc.de
OC_FARNELL: unknown; OC_NEWARK: unknown
footprint LQFP120
part A pins: 1 P30, 2 P31, 3 P32, 4 P33, 5 P34, 6 P35, 7 P36, 8 P37, 9 P40, 10 P41, 11 P42, 12 P43, 13 P44, 14 P45, 15 VCC (power), 16 VSS (power), 17 C, 18 P46, 19 P47, 20 P50, 21 P51, 22 P52, 23 P53, 24 P54, 25 P55, 26 P56, 27 P57, 47 VSS2 (power), 87 MD2, 88 MD1, 89 MD0, 90 !RST, 93 P0, 94 P1, 95 P2, 96 P3, 97 P4, 98 P5, 99 P6, 100 P7, 101 P10, 102 P11, 103 P12, 104 P13, 105 VCC1 (power), 106 VSS1 (power), 107 X1 (out), 108 X0, 109 P14, 110 P15, 111 P16, 112 P17, 113 P20, 114 P21, 115 P22, 116 P23, 117 P24, 118 P25, 119 P26, 120 P27
part B pins: 28 P90, 29 P91, 30 P92, 31 P93, 32 P94, 33 P95, 34 P96, 35 AVCC (power), 36 AVRH, 37 AVRL, 38 AVSS (power), 39 P60, 40 P61, 41 P62, 42 P63, 43 P64, 44 P65, 45 P66, 46 P67, 48 PB0, 49 PB1, 50 PB2, 51 PB3, 52 PB4, 53 PB5, 54 PB6, 55 DVCC@1 (power), 56 DVSS@1 (power), 57 P70, 58 P71, 59 P72, 60 P73, 61 P74, 62 P75, 63 P76, 64 P77, 65 DVCC@2 (power), 66 DVSS@2 (power), 67 P80, 68 P81, 69 P82, 70 P83, 71 P84, 72 P85, 73 P86, 74 P87, 75 DVCC@3 (power), 76 DVSS@3 (power), 77 PA0, 78 PA1, 79 PA2, 80 PA3, 81 PA4, 82 PA5, 83 PA6, 84 PA7, 85 DVCC@4 (power), 86 DVSS@4, 91 PB7, 92 P97

## MB8279PF
designator IC?, comment MICROCONTROLLER/MEMORY DEVICE
OC_FARNELL: unknown; OC_NEWARK: unknown
footprint SOP32-4
part A pins: 1 A3, 2 A4, 3 A5, 4 A6, 5 A7, 6 A8, 7 A9, 8 A10, 9 A11, 10 A12, 11 I/O1, 12 I/O2, 13 I/O3, 14 I/O4, 15 I/O5, 18 I/O6, 19 I/O7, 20 I/O8, 21 I/O9, 22 !PE, 23 CS2, 24 !WE, 25 !CS1, 26 INH, 27 CLK, 28 !CLR, 29 A0, 30 A1, 31 A2
part B pins: 16 GND (power), 17 GNDQ (power), 32 VCC (power)

## MB8279PSK
designator IC?, comment MICROCONTROLLER/MEMORY DEVICE
OC_FARNELL: unknown; OC_NEWARK: unknown
footprint DIL32-3
part A pins: 1 A3, 2 A4, 3 A5, 4 A6, 5 A7, 6 A8, 7 A9, 8 A10, 9 A11, 10 A12, 11 I/O1, 12 I/O2, 13 I/O3, 14 I/O4, 15 I/O5, 18 I/O6, 19 I/O7, 20 I/O8, 21 I/O9, 22 !PE, 23 CS2, 24 !WE, 25 !CS1, 26 INH, 27 CLK, 28 !CLR, 29 A0, 30 A1, 31 A2
part B pins: 16 GND (power), 17 GNDQ (power), 32 VCC (power)

## MB8287PF
designator IC?, comment MICROCONTROLLER/MEMORY DEVICE
OC_FARNELL: unknown; OC_NEWARK: unknown
footprint SOP32-4
part A pins: 1 A5, 2 A4, 3 A3, 4 A2, 5 A1, 6 A0, 7 A12, 8 A13, 9 A14, 10 !OE, 11 CS2, 12 !PE, 13 I/O1, 14 I/O2, 15 I/O3, 18 I/O4, 19 I/O5, 20 I/O6, 21 I/O7, 22 I/O8, 23 !WE, 24 !CS1, 25 NC, 26 A11, 27 A10, 28 A9, 29 A8, 30 A7, 31 A6
part B pins: 16 GND (power), 17 GNDQ (power), 32 VCC (power)

## MB8287PSK
designator IC?, comment MICROCONTROLLER/MEMORY DEVICE
OC_FARNELL: unknown; OC_NEWARK: unknown
footprint DIL32-3
part A pins: 1 A5, 2 A4, 3 A3, 4 A2, 5 A1, 6 A0, 7 A12, 8 A13, 9 A14, 10 !OE, 11 CS2, 12 !PE, 13 I/O1, 14 I/O2, 15 I/O3, 18 I/O4, 19 I/O5, 20 I/O6, 21 I/O7, 22 I/O8, 23 !WE, 24 !CS1, 25 NC, 26 A11, 27 A10, 28 A9, 29 A8, 30 A7, 31 A6
part B pins: 16 GND (power), 17 GNDQ (power), 32 VCC (power)

## MB8289PF
designator IC?, comment MICROCONTROLLER/MEMORY DEVICE
OC_FARNELL: unknown; OC_NEWARK: unknown
footprint SOP32-4
part A pins: 1 A5, 2 A4, 3 A3, 4 A2, 5 A1, 6 A0, 7 A12, 8 A13, 9 A14, 10 !OE, 11 CS2, 12 I/O1, 13 I/O2, 14 I/O3, 15 I/O4, 18 I/O5, 19 I/O6, 20 I/O7, 21 I/O8, 22 I/O9, 23 !WE, 24 !CS1, 25 NC, 26 A11, 27 A10, 28 A9, 29 A8, 30 A7, 31 A6
part B pins: 16 GND (power), 17 GNDQ (power), 32 VCC (power)

## MB8289PSK
designator IC?, comment MICROCONTROLLER/MEMORY DEVICE
OC_FARNELL: unknown; OC_NEWARK: unknown
footprint DIL32-3
part A pins: 1 A5, 2 A4, 3 A3, 4 A2, 5 A1, 6 A0, 7 A12, 8 A13, 9 A14, 10 !OE, 11 CS2, 12 I/O1, 13 I/O2, 14 I/O3, 15 I/O4, 18 I/O5, 19 I/O6, 20 I/O7, 21 I/O8, 22 I/O9, 23 !WE, 24 !CS1, 25 NC, 26 A11, 27 A10, 28 A9, 29 A8, 30 A7, 31 A6
part B pins: 16 GND (power), 17 GNDQ (power), 32 VCC (power)

## MB8298PF
designator IC?, comment MICROCONTROLLER/MEMORY DEVICE
OC_FARNELL: unknown; OC_NEWARK: unknown
footprint SOP28
part A pins: 1 A14, 2 A12, 3 A7, 4 A6, 5 A5, 6 A4, 7 A3, 8 A2, 9 A1, 10 A0, 11 I/O1, 12 I/O2, 13 I/O3, 15 I/O4, 16 I/O5, 17 I/O6, 18 I/O7, 19 I/O8, 20 !CS, 21 A10, 22 !OE, 23 A11, 24 A9, 25 A8, 26 A13, 27 !WE
part B pins: 14 GND (power), 28 VCC (power)

## MB8298PJ
designator IC?, comment MICROCONTROLLER/MEMORY DEVICE
OC_FARNELL: unknown; OC_NEWARK: unknown
footprint SOJ28-3
part A pins: 1 A14, 2 A12, 3 A7, 4 A6, 5 A5, 6 A4, 7 A3, 8 A2, 9 A1, 10 A0, 11 I/O1, 12 I/O2, 13 I/O3, 15 I/O4, 16 I/O5, 17 I/O6, 18 I/O7, 19 I/O8, 20 !CS, 21 A10, 22 !OE, 23 A11, 24 A9, 25 A8, 26 A13, 27 !WE
part B pins: 14 GND (power), 28 VCC (power)

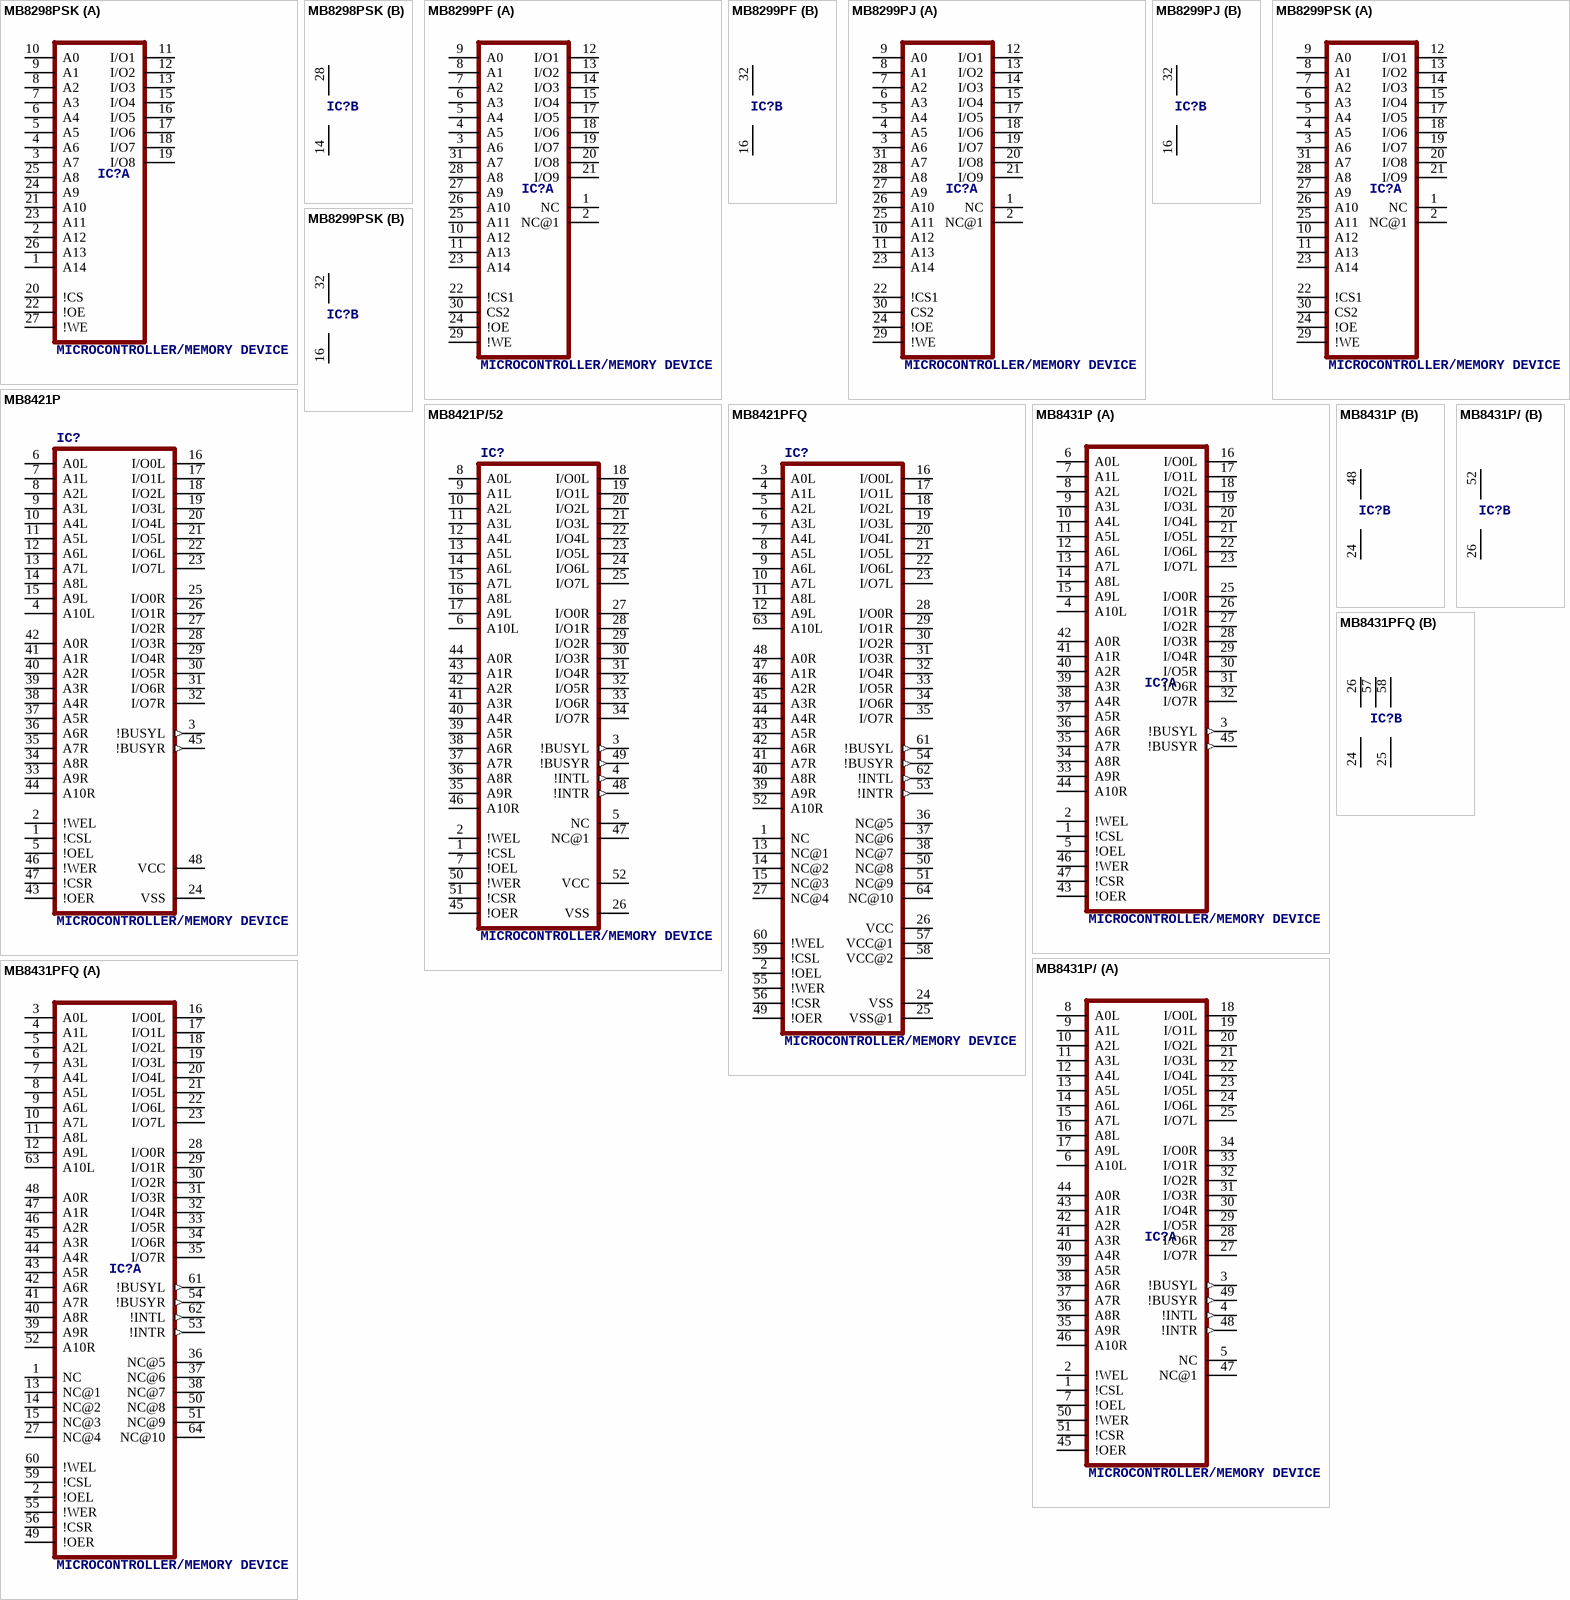
[diagram p5: symbols MB8298PSK to MB8431PFQ]

## MB8298PSK
designator IC?, comment MICROCONTROLLER/MEMORY DEVICE
OC_FARNELL: unknown; OC_NEWARK: unknown
footprint DIL28-3
part A pins: 1 A14, 2 A12, 3 A7, 4 A6, 5 A5, 6 A4, 7 A3, 8 A2, 9 A1, 10 A0, 11 I/O1, 12 I/O2, 13 I/O3, 15 I/O4, 16 I/O5, 17 I/O6, 18 I/O7, 19 I/O8, 20 !CS, 21 A10, 22 !OE, 23 A11, 24 A9, 25 A8, 26 A13, 27 !WE
part B pins: 14 GND (power), 28 VCC (power)

## MB8299PF
designator IC?, comment MICROCONTROLLER/MEMORY DEVICE
OC_FARNELL: unknown; OC_NEWARK: unknown
footprint SOP32-4
part A pins: 1 NC, 2 NC@1, 3 A6, 4 A5, 5 A4, 6 A3, 7 A2, 8 A1, 9 A0, 10 A12, 11 A13, 12 I/O1, 13 I/O2, 14 I/O3, 15 I/O4, 17 I/O5, 18 I/O6, 19 I/O7, 20 I/O8, 21 I/O9, 22 !CS1, 23 A14, 24 !OE, 25 A11, 26 A10, 27 A9, 28 A8, 29 !WE, 30 CS2, 31 A7
part B pins: 16 GND (power), 32 VCC (power)

## MB8299PJ
designator IC?, comment MICROCONTROLLER/MEMORY DEVICE
OC_FARNELL: unknown; OC_NEWARK: unknown
footprint SOJ32-3
part A pins: 1 NC, 2 NC@1, 3 A6, 4 A5, 5 A4, 6 A3, 7 A2, 8 A1, 9 A0, 10 A12, 11 A13, 12 I/O1, 13 I/O2, 14 I/O3, 15 I/O4, 17 I/O5, 18 I/O6, 19 I/O7, 20 I/O8, 21 I/O9, 22 !CS1, 23 A14, 24 !OE, 25 A11, 26 A10, 27 A9, 28 A8, 29 !WE, 30 CS2, 31 A7
part B pins: 16 GND (power), 32 VCC (power)

## MB8299PSK
designator IC?, comment MICROCONTROLLER/MEMORY DEVICE
OC_FARNELL: unknown; OC_NEWARK: unknown
footprint DIL32-3
part A pins: 1 NC, 2 NC@1, 3 A6, 4 A5, 5 A4, 6 A3, 7 A2, 8 A1, 9 A0, 10 A12, 11 A13, 12 I/O1, 13 I/O2, 14 I/O3, 15 I/O4, 17 I/O5, 18 I/O6, 19 I/O7, 20 I/O8, 21 I/O9, 22 !CS1, 23 A14, 24 !OE, 25 A11, 26 A10, 27 A9, 28 A8, 29 !WE, 30 CS2, 31 A7
part B pins: 16 GND (power), 32 VCC (power)

## MB8421P
designator IC?, comment MICROCONTROLLER/MEMORY DEVICE
OC_FARNELL: unknown; OC_NEWARK: unknown
footprint DIL48
pins: 1 !CSL, 2 !WEL, 3 !BUSYL (out), 4 A10L, 5 !OEL, 6 A0L, 7 A1L, 8 A2L, 9 A3L, 10 A4L, 11 A5L, 12 A6L, 13 A7L, 14 A8L, 15 A9L, 16 I/O0L, 17 I/O1L, 18 I/O2L, 19 I/O3L, 20 I/O4L, 21 I/O5L, 22 I/O6L, 23 I/O7L, 24 VSS (power), 25 I/O0R, 26 I/O1R, 27 I/O2R, 28 I/O3R, 29 I/O4R, 30 I/O5R, 31 I/O6R, 32 I/O7R, 33 A9R, 34 A8R, 35 A7R, 36 A6R, 37 A5R, 38 A4R, 39 A3R, 40 A2R, 41 A1R, 42 A0R, 43 !OER, 44 A10R, 45 !BUSYR (out), 46 !WER, 47 !CSR, 48 VCC (power)

## MB8421P/52
designator IC?, comment MICROCONTROLLER/MEMORY DEVICE
OC_FARNELL: unknown; OC_NEWARK: unknown
footprint DIL52
pins: 1 !CSL, 2 !WEL, 3 !BUSYL (out), 4 !INTL (out), 5 NC, 6 A10L, 7 !OEL, 8 A0L, 9 A1L, 10 A2L, 11 A3L, 12 A4L, 13 A5L, 14 A6L, 15 A7L, 16 A8L, 17 A9L, 18 I/O0L, 19 I/O1L, 20 I/O2L, 21 I/O3L, 22 I/O4L, 23 I/O5L, 24 I/O6L, 25 I/O7L, 26 VSS (power), 27 I/O0R, 28 I/O1R, 29 I/O2R, 30 I/O3R, 31 I/O4R, 32 I/O5R, 33 I/O6R, 34 I/O7R, 35 A9R, 36 A8R, 37 A7R, 38 A6R, 39 A5R, 40 A4R, 41 A3R, 42 A2R, 43 A1R, 44 A0R, 45 !OER, 46 A10R, 47 NC@1, 48 !INTR (out), 49 !BUSYR (out), 50 !WER, 51 !CSR, 52 VCC (power)

## MB8421PFQ
designator IC?, comment MICROCONTROLLER/MEMORY DEVICE
OC_FARNELL: unknown; OC_NEWARK: unknown
footprint QFP64
pins: 1 NC, 2 !OEL, 3 A0L, 4 A1L, 5 A2L, 6 A3L, 7 A4L, 8 A5L, 9 A6L, 10 A7L, 11 A8L, 12 A9L, 13 NC@1, 14 NC@2, 15 NC@3, 16 I/O0L, 17 I/O1L, 18 I/O2L, 19 I/O3L, 20 I/O4L, 21 I/O5L, 22 I/O6L, 23 I/O7L, 24 VSS (power), 25 VSS@1 (power), 26 VCC (power), 27 NC@4, 28 I/O0R, 29 I/O1R, 30 I/O2R, 31 I/O3R, 32 I/O4R, 33 I/O5R, 34 I/O6R, 35 I/O7R, 36 NC@5, 37 NC@6, 38 NC@7, 39 A9R, 40 A8R, 41 A7R, 42 A6R, 43 A5R, 44 A4R, 45 A3R, 46 A2R, 47 A1R, 48 A0R, 49 !OER, 50 NC@8, 51 NC@9, 52 A10R, 53 !INTR (out), 54 !BUSYR (out), 55 !WER, 56 !CSR, 57 VCC@1 (power), 58 VCC@2 (power), 59 !CSL, 60 !WEL, 61 !BUSYL (out), 62 !INTL (out), 63 A10L, 64 NC@10

## MB8431P
designator IC?, comment MICROCONTROLLER/MEMORY DEVICE
OC_FARNELL: unknown; OC_NEWARK: unknown
footprint DIL48
part A pins: 1 !CSL, 2 !WEL, 3 !BUSYL (out), 4 A10L, 5 !OEL, 6 A0L, 7 A1L, 8 A2L, 9 A3L, 10 A4L, 11 A5L, 12 A6L, 13 A7L, 14 A8L, 15 A9L, 16 I/O0L, 17 I/O1L, 18 I/O2L, 19 I/O3L, 20 I/O4L, 21 I/O5L, 22 I/O6L, 23 I/O7L, 25 I/O0R, 26 I/O1R, 27 I/O2R, 28 I/O3R, 29 I/O4R, 30 I/O5R, 31 I/O6R, 32 I/O7R, 33 A9R, 34 A8R, 35 A7R, 36 A6R, 37 A5R, 38 A4R, 39 A3R, 40 A2R, 41 A1R, 42 A0R, 43 !OER, 44 A10R, 45 !BUSYR (out), 46 !WER, 47 !CSR
part B pins: 24 GND (power), 48 VCC (power)

## MB8431P/
designator IC?, comment MICROCONTROLLER/MEMORY DEVICE
OC_FARNELL: unknown; OC_NEWARK: unknown
footprint DIL52
part A pins: 1 !CSL, 2 !WEL, 3 !BUSYL (out), 4 !INTL (out), 5 NC, 6 A10L, 7 !OEL, 8 A0L, 9 A1L, 10 A2L, 11 A3L, 12 A4L, 13 A5L, 14 A6L, 15 A7L, 16 A8L, 17 A9L, 18 I/O0L, 19 I/O1L, 20 I/O2L, 21 I/O3L, 22 I/O4L, 23 I/O5L, 24 I/O6L, 25 I/O7L, 27 I/O7R, 28 I/O6R, 29 I/O5R, 30 I/O4R, 31 I/O3R, 32 I/O2R, 33 I/O1R, 34 I/O0R, 35 A9R, 36 A8R, 37 A7R, 38 A6R, 39 A5R, 40 A4R, 41 A3R, 42 A2R, 43 A1R, 44 A0R, 45 !OER, 46 A10R, 47 NC@1, 48 !INTR (out), 49 !BUSYR (out), 50 !WER, 51 !CSR
part B pins: 26 GND (power), 52 VCC (power)

## MB8431PFQ
designator IC?, comment MICROCONTROLLER/MEMORY DEVICE
OC_FARNELL: unknown; OC_NEWARK: unknown
footprint QFP64
part A pins: 1 NC, 2 !OEL, 3 A0L, 4 A1L, 5 A2L, 6 A3L, 7 A4L, 8 A5L, 9 A6L, 10 A7L, 11 A8L, 12 A9L, 13 NC@1, 14 NC@2, 15 NC@3, 16 I/O0L, 17 I/O1L, 18 I/O2L, 19 I/O3L, 20 I/O4L, 21 I/O5L, 22 I/O6L, 23 I/O7L, 27 NC@4, 28 I/O0R, 29 I/O1R, 30 I/O2R, 31 I/O3R, 32 I/O4R, 33 I/O5R, 34 I/O6R, 35 I/O7R, 36 NC@5, 37 NC@6, 38 NC@7, 39 A9R, 40 A8R, 41 A7R, 42 A6R, 43 A5R, 44 A4R, 45 A3R, 46 A2R, 47 A1R, 48 A0R, 49 !OER, 50 NC@8, 51 NC@9, 52 A10R, 53 !INTR (out), 54 !BUSYR (out), 55 !WER, 56 !CSR, 59 !CSL, 60 !WEL, 61 !BUSYL (out), 62 !INTL (out), 63 A10L, 64 NC@10
part B pins: 24 GND (power), 25 GND@1 (power), 26 VCC (power), 57 VCC@1 (power), 58 VCC@2 (power)

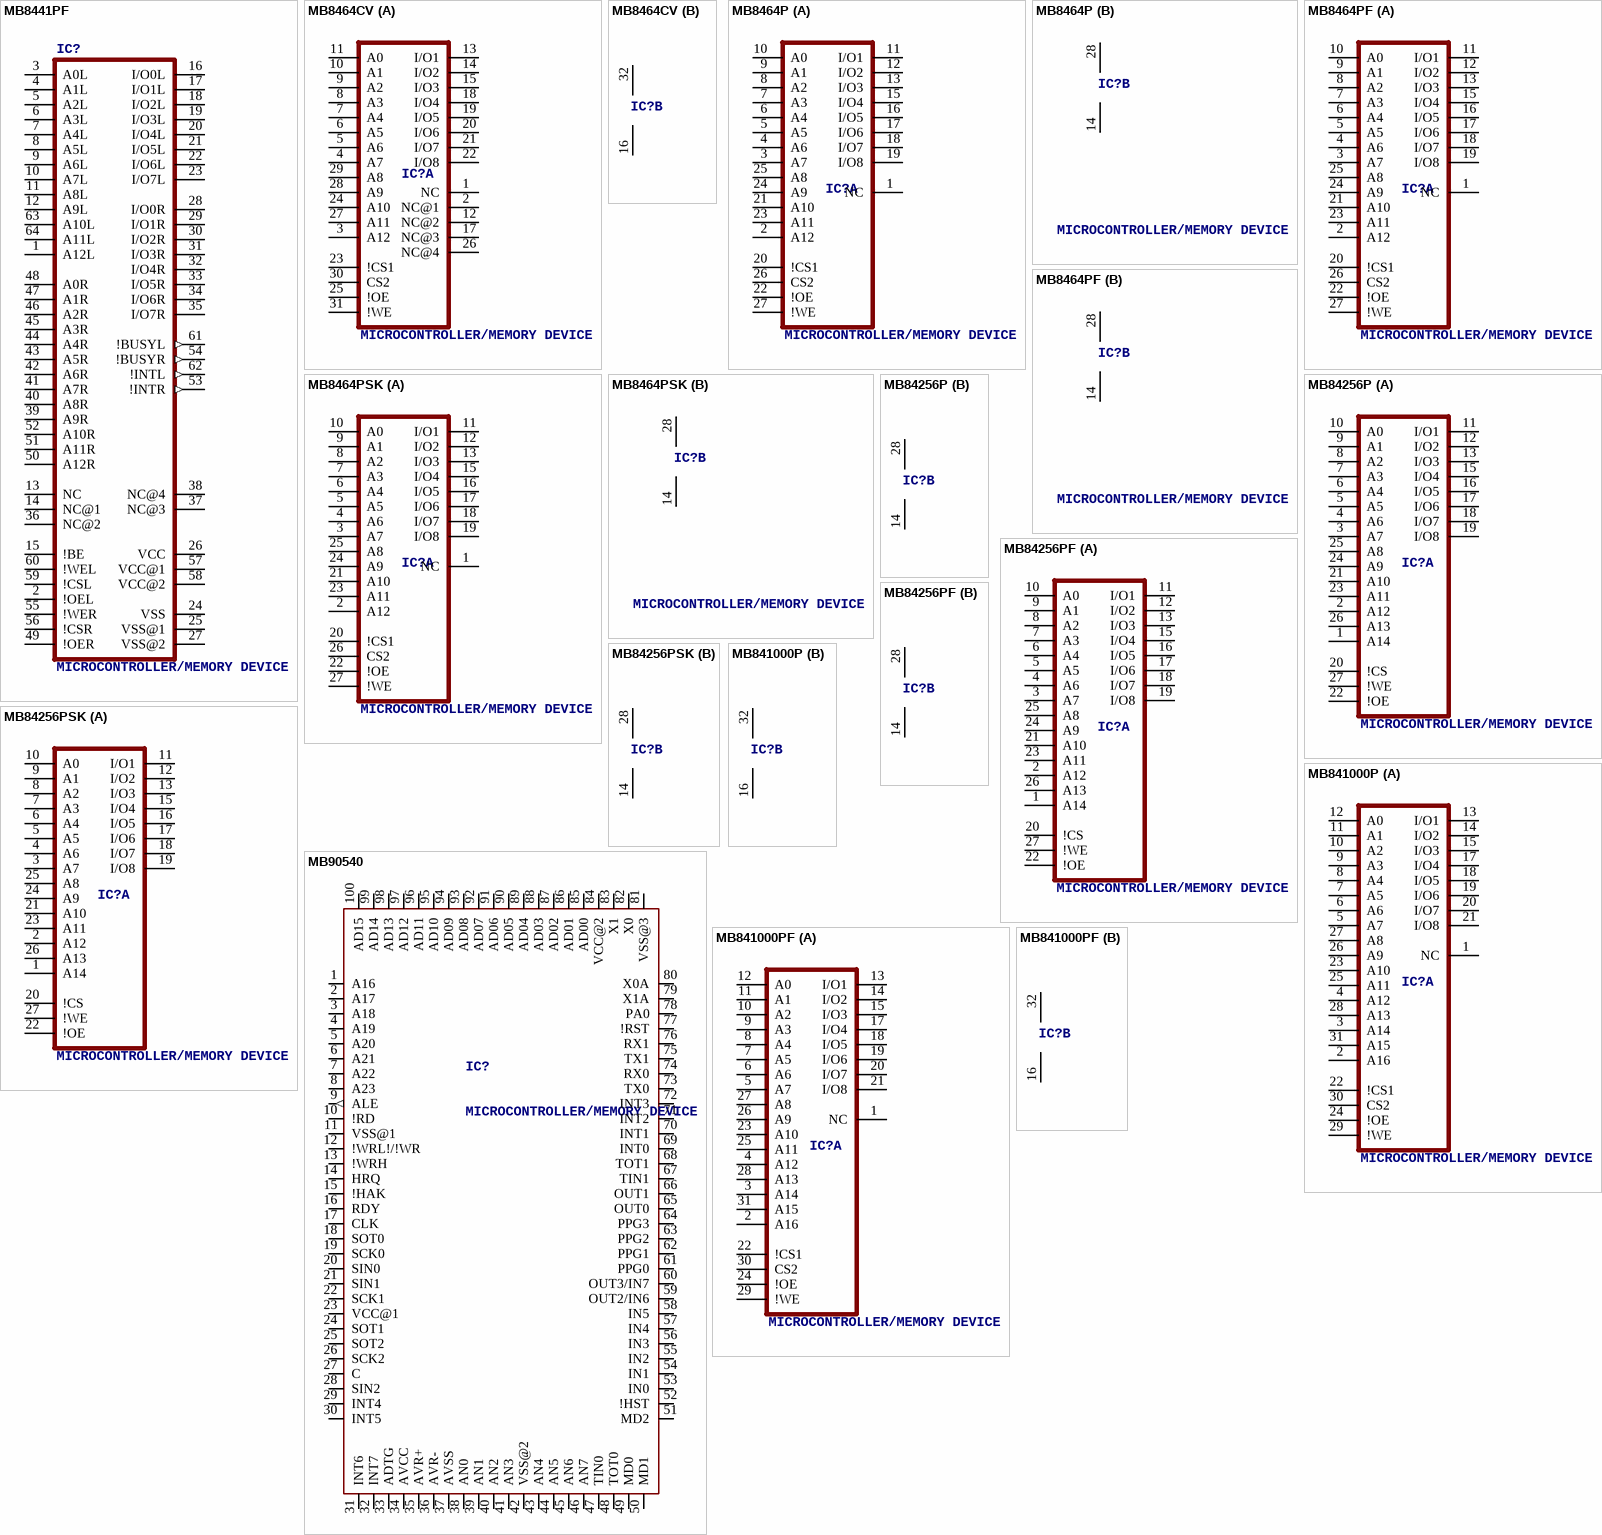
[diagram p6: symbols MB8441PF to MB841000PF]

## MB8441PF
designator IC?, comment MICROCONTROLLER/MEMORY DEVICE
OC_FARNELL: unknown; OC_NEWARK: unknown
footprint SOP64
pins: 1 A12L, 2 !OEL, 3 A0L, 4 A1L, 5 A2L, 6 A3L, 7 A4L, 8 A5L, 9 A6L, 10 A7L, 11 A8L, 12 A9L, 13 NC, 14 NC@1, 15 !BE, 16 I/O0L, 17 I/O1L, 18 I/O2L, 19 I/O3L, 20 I/O4L, 21 I/O5L, 22 I/O6L, 23 I/O7L, 24 VSS (power), 25 VSS@1 (power), 26 VCC (power), 27 VSS@2 (power), 28 I/O0R, 29 I/O1R, 30 I/O2R, 31 I/O3R, 32 I/O4R, 33 I/O5R, 34 I/O6R, 35 I/O7R, 36 NC@2, 37 NC@3, 38 NC@4, 39 A9R, 40 A8R, 41 A7R, 42 A6R, 43 A5R, 44 A4R, 45 A3R, 46 A2R, 47 A1R, 48 A0R, 49 !OER, 50 A12R, 51 A11R, 52 A10R, 53 !INTR (out), 54 !BUSYR (out), 55 !WER, 56 !CSR, 57 VCC@1 (power), 58 VCC@2 (power), 59 !CSL, 60 !WEL, 61 !BUSYL (out), 62 !INTL (out), 63 A10L, 64 A11L

## MB8464CV
designator IC?, comment MICROCONTROLLER/MEMORY DEVICE
OC_FARNELL: unknown; OC_NEWARK: unknown
footprint LCC32
part A pins: 1 NC, 2 NC@1, 3 A12, 4 A7, 5 A6, 6 A5, 7 A4, 8 A3, 9 A2, 10 A1, 11 A0, 12 NC@2, 13 I/O1, 14 I/O2, 15 I/O3, 17 NC@3, 18 I/O4, 19 I/O5, 20 I/O6, 21 I/O7, 22 I/O8, 23 !CS1, 24 A10, 25 !OE, 26 NC@4, 27 A11, 28 A9, 29 A8, 30 CS2, 31 !WE
part B pins: 16 GND (power), 32 VCC (power)

## MB8464P
designator IC?, comment MICROCONTROLLER/MEMORY DEVICE
OC_FARNELL: unknown; OC_NEWARK: unknown
footprint DIL28-6
part A pins: 1 NC, 2 A12, 3 A7, 4 A6, 5 A5, 6 A4, 7 A3, 8 A2, 9 A1, 10 A0, 11 I/O1, 12 I/O2, 13 I/O3, 15 I/O4, 16 I/O5, 17 I/O6, 18 I/O7, 19 I/O8, 20 !CS1, 21 A10, 22 !OE, 23 A11, 24 A9, 25 A8, 26 CS2, 27 !WE
part B pins: 14 GND (power), 28 VCC (power)

## MB8464PF
designator IC?, comment MICROCONTROLLER/MEMORY DEVICE
OC_FARNELL: unknown; OC_NEWARK: unknown
footprint SOP28
part A pins: 1 NC, 2 A12, 3 A7, 4 A6, 5 A5, 6 A4, 7 A3, 8 A2, 9 A1, 10 A0, 11 I/O1, 12 I/O2, 13 I/O3, 15 I/O4, 16 I/O5, 17 I/O6, 18 I/O7, 19 I/O8, 20 !CS1, 21 A10, 22 !OE, 23 A11, 24 A9, 25 A8, 26 CS2, 27 !WE
part B pins: 14 GND (power), 28 VCC (power)

## MB8464PSK
designator IC?, comment MICROCONTROLLER/MEMORY DEVICE
OC_FARNELL: unknown; OC_NEWARK: unknown
footprint DIL28-3
part A pins: 1 NC, 2 A12, 3 A7, 4 A6, 5 A5, 6 A4, 7 A3, 8 A2, 9 A1, 10 A0, 11 I/O1, 12 I/O2, 13 I/O3, 15 I/O4, 16 I/O5, 17 I/O6, 18 I/O7, 19 I/O8, 20 !CS1, 21 A10, 22 !OE, 23 A11, 24 A9, 25 A8, 26 CS2, 27 !WE
part B pins: 14 GND (power), 28 VCC (power)

## MB84256P
designator IC?, comment MICROCONTROLLER/MEMORY DEVICE
OC_FARNELL: unknown; OC_NEWARK: unknown
footprint DIL28-6
part A pins: 1 A14, 2 A12, 3 A7, 4 A6, 5 A5, 6 A4, 7 A3, 8 A2, 9 A1, 10 A0, 11 I/O1, 12 I/O2, 13 I/O3, 15 I/O4, 16 I/O5, 17 I/O6, 18 I/O7, 19 I/O8, 20 !CS, 21 A10, 22 !OE, 23 A11, 24 A9, 25 A8, 26 A13, 27 !WE
part B pins: 14 GND (power), 28 VCC (power)

## MB84256PF
designator IC?, comment MICROCONTROLLER/MEMORY DEVICE
OC_FARNELL: unknown; OC_NEWARK: unknown
footprint SOP28
part A pins: 1 A14, 2 A12, 3 A7, 4 A6, 5 A5, 6 A4, 7 A3, 8 A2, 9 A1, 10 A0, 11 I/O1, 12 I/O2, 13 I/O3, 15 I/O4, 16 I/O5, 17 I/O6, 18 I/O7, 19 I/O8, 20 !CS, 21 A10, 22 !OE, 23 A11, 24 A9, 25 A8, 26 A13, 27 !WE
part B pins: 14 GND (power), 28 VCC (power)

## MB84256PSK
designator IC?, comment MICROCONTROLLER/MEMORY DEVICE
OC_FARNELL: unknown; OC_NEWARK: unknown
footprint DIL28-3
part A pins: 1 A14, 2 A12, 3 A7, 4 A6, 5 A5, 6 A4, 7 A3, 8 A2, 9 A1, 10 A0, 11 I/O1, 12 I/O2, 13 I/O3, 15 I/O4, 16 I/O5, 17 I/O6, 18 I/O7, 19 I/O8, 20 !CS, 21 A10, 22 !OE, 23 A11, 24 A9, 25 A8, 26 A13, 27 !WE
part B pins: 14 GND (power), 28 VCC (power)

## MB90540
designator IC?, comment MICROCONTROLLER/MEMORY DEVICE
OC_FARNELL: unknown; OC_NEWARK: unknown
footprint QFP100
pins: 1 A16, 2 A17, 3 A18, 4 A19, 5 A20, 6 A21, 7 A22, 8 A23, 9 ALE (out), 10 !RD, 11 VSS@1 (power), 12 !WRL!/!WR, 13 !WRH, 14 HRQ, 15 !HAK, 16 RDY, 17 CLK, 18 SOT0, 19 SCK0, 20 SIN0, 21 SIN1, 22 SCK1, 23 VCC@1 (power), 24 SOT1, 25 SOT2, 26 SCK2, 27 C, 28 SIN2, 29 INT4, 30 INT5, 31 INT6, 32 INT7, 33 ADTG, 34 AVCC (power), 35 AVR+ (power), 36 AVR- (power), 37 AVSS (power), 38 AN0, 39 AN1, 40 AN2, 41 AN3, 42 VSS@2 (power), 43 AN4, 44 AN5, 45 AN6, 46 AN7, 47 TIN0, 48 TOT0, 49 MD0, 50 MD1, 51 MD2, 52 !HST, 53 IN0, 54 IN1, 55 IN2, 56 IN3, 57 IN4, 58 IN5, 59 OUT2/IN6, 60 OUT3/IN7, 61 PPG0, 62 PPG1, 63 PPG2, 64 PPG3, 65 OUT0, 66 OUT1, 67 TIN1, 68 TOT1, 69 INT0, 70 INT1, 71 INT2, 72 INT3, 73 TX0, 74 RX0, 75 TX1, 76 RX1, 77 !RST, 78 PA0, 79 X1A, 80 X0A, 81 VSS@3 (power), 82 X0, 83 X1, 84 VCC@2 (power), 85 AD00, 86 AD01, 87 AD02, 88 AD03, 89 AD04, 90 AD05, 91 AD06, 92 AD07, 93 AD08, 94 AD09, 95 AD10, 96 AD11, 97 AD12, 98 AD13, 99 AD14, 100 AD15

## MB841000P
designator IC?, comment MICROCONTROLLER/MEMORY DEVICE
OC_FARNELL: unknown; OC_NEWARK: unknown
footprint DIL32-6
part A pins: 1 NC, 2 A16, 3 A14, 4 A12, 5 A7, 6 A6, 7 A5, 8 A4, 9 A3, 10 A2, 11 A1, 12 A0, 13 I/O1, 14 I/O2, 15 I/O3, 17 I/O4, 18 I/O5, 19 I/O6, 20 I/O7, 21 I/O8, 22 !CS1, 23 A10, 24 !OE, 25 A11, 26 A9, 27 A8, 28 A13, 29 !WE, 30 CS2, 31 A15
part B pins: 16 GND (power), 32 VCC (power)

## MB841000PF
designator IC?, comment MICROCONTROLLER/MEMORY DEVICE
OC_FARNELL: unknown; OC_NEWARK: unknown
footprint SOP32-5
part A pins: 1 NC, 2 A16, 3 A14, 4 A12, 5 A7, 6 A6, 7 A5, 8 A4, 9 A3, 10 A2, 11 A1, 12 A0, 13 I/O1, 14 I/O2, 15 I/O3, 17 I/O4, 18 I/O5, 19 I/O6, 20 I/O7, 21 I/O8, 22 !CS1, 23 A10, 24 !OE, 25 A11, 26 A9, 27 A8, 28 A13, 29 !WE, 30 CS2, 31 A15
part B pins: 16 GND (power), 32 VCC (power)